# Altium integrated library Atmel Communication ICs.IntLib: 82 symbols (part 2 of 3)
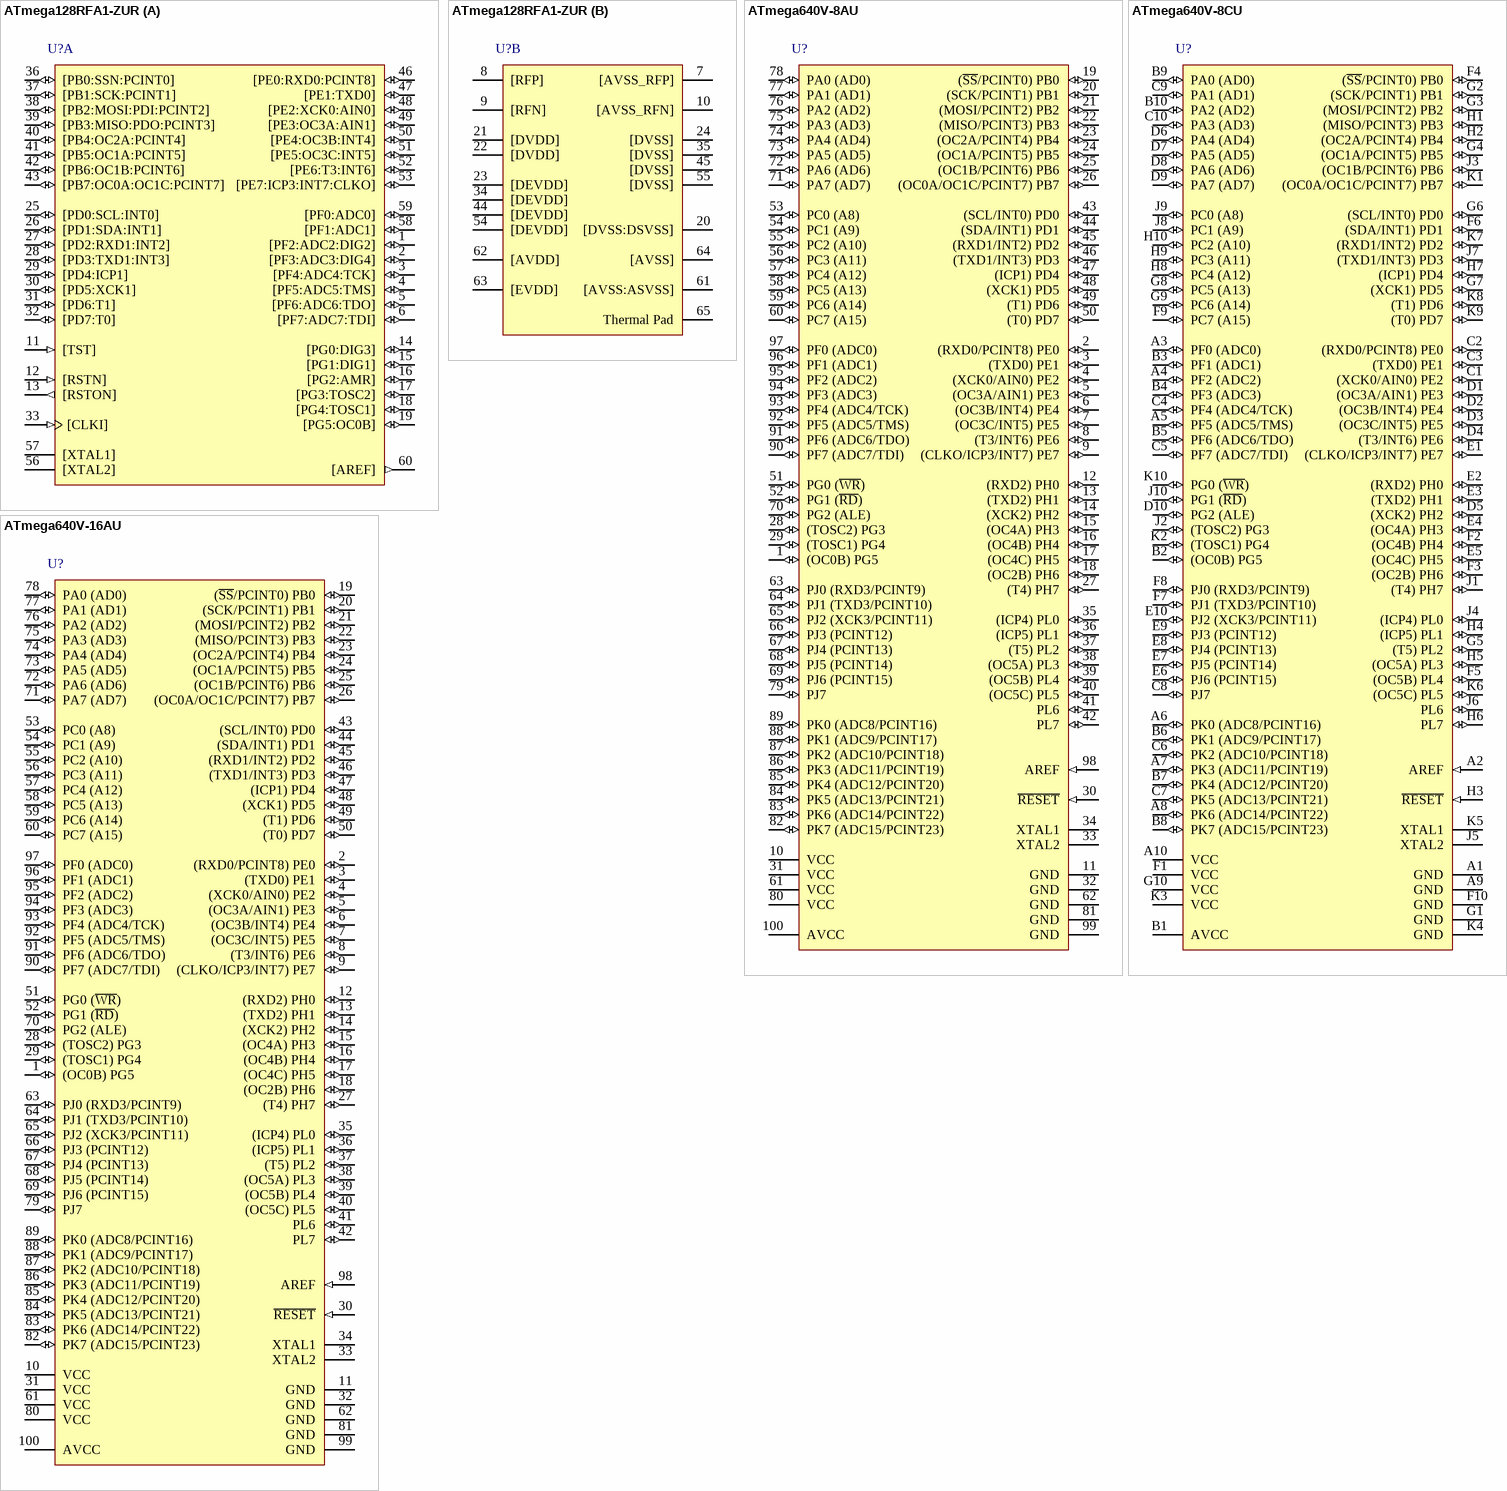
[diagram p9: symbols ATmega128RFA1-ZUR to ATmega640V-16AU]

## ATmega640V-16AU
designator U?
16 MHz 8-bit AVR Microcontroller with 64KB Flash, 100-Pin TQFP Pkg, 86 I/Os, 12 PWMs, 4 USARTs, 16 ADC Channels, Industrial Temp; Published: 20-Sep-2010; DatasheetVersion: revL, Aug-2007; PackageVersion: revC, Oct-2001; PackageReference: 100A; Publisher: Altium Limited; PackageDescription: 100-Pin Thin Profile Plastic Quad Flat Pack (TQFP), 14 x 14 x 1.0 mm Body, 0.5 mm Pitch; Code_JEDEC: MS-026-AED; ComponentLink1Description: ATmega640V Datasheet; ComponentLink1URL: http://www.atmel.com/dyn/resources/prod_documents/doc2549.pdf; ComponentLink2Description: Atmel.com Home; ComponentLink2URL: http://www.atmel.com
footprint 100A_N (Thin QFP, 100-Leads, Body 14x14mm, Pitch 0.5mm, IPC Medium Density)
footprint 100A_L (Thin QFP, 100-Leads, Body 14x14mm, Pitch 0.5mm, IPC High Density)
footprint 100A_M (Thin QFP, 100-Leads, Body 14x14mm, Pitch 0.5mm, IPC Low Density)
pins: 1 (OC0B) PG5 (io), 2 (RXD0/PCINT8) PE0 (io), 3 (TXD0) PE1 (io), 4 (XCK0/AIN0) PE2 (io), 5 (OC3A/AIN1) PE3 (io), 6 (OC3B/INT4) PE4 (io), 7 (OC3C/INT5) PE5 (io), 8 (T3/INT6) PE6 (io), 9 (CLKO/ICP3/INT7) PE7 (io), 10 VCC (power), 11 GND (power), 12 (RXD2) PH0 (io), 13 (TXD2) PH1 (io), 14 (XCK2) PH2 (io), 15 (OC4A) PH3 (io), 16 (OC4B) PH4 (io), 17 (OC4C) PH5 (io), 18 (OC2B) PH6 (io), 19 (~{SS}/PCINT0) PB0 (io), 20 (SCK/PCINT1) PB1 (io), 21 (MOSI/PCINT2) PB2 (io), 22 (MISO/PCINT3) PB3 (io), 23 (OC2A/PCINT4) PB4 (io), 24 (OC1A/PCINT5) PB5 (io), 25 (OC1B/PCINT6) PB6 (io), 26 (OC0A/OC1C/PCINT7) PB7 (io), 27 (T4) PH7 (io), 28 (TOSC2) PG3 (io), 29 (TOSC1) PG4 (io), 30 ~{RESET} (in), 31 VCC (power), 32 GND (power), 33 XTAL2, 34 XTAL1, 35 (ICP4) PL0 (io), 36 (ICP5) PL1 (io), 37 (T5) PL2 (io), 38 (OC5A) PL3 (io), 39 (OC5B) PL4 (io), 40 (OC5C) PL5 (io), 41 PL6 (io), 42 PL7 (io), 43 (SCL/INT0) PD0 (io), 44 (SDA/INT1) PD1 (io), 45 (RXD1/INT2) PD2 (io), 46 (TXD1/INT3) PD3 (io), 47 (ICP1) PD4 (io), 48 (XCK1) PD5 (io), 49 (T1) PD6 (io), 50 (T0) PD7 (io), 51 PG0 (~{WR})  (io), 52 PG1 (~{RD})  (io), 53 PC0 (A8)  (io), 54 PC1 (A9)  (io), 55 PC2 (A10)  (io), 56 PC3 (A11)  (io), 57 PC4 (A12)  (io), 58 PC5 (A13)  (io), 59 PC6 (A14)  (io), 60 PC7 (A15)  (io), 61 VCC (power), 62 GND (power), 63 PJ0 (RXD3/PCINT9)  (io), 64 PJ1 (TXD3/PCINT10)  (io), 65 PJ2 (XCK3/PCINT11)  (io), 66 PJ3 (PCINT12)  (io), 67 PJ4 (PCINT13)  (io), 68 PJ5 (PCINT14)  (io), 69 PJ6 (PCINT15)  (io), 70 PG2 (ALE)  (io), 71 PA7 (AD7)  (io), 72 PA6 (AD6)  (io), 73 PA5 (AD5)  (io), 74 PA4 (AD4)  (io), 75 PA3 (AD3)  (io), 76 PA2 (AD2) (io), 77 PA1 (AD1) (io), 78 PA0 (AD0) (io), 79 PJ7 (io), 80 VCC (power), 81 GND (power), 82 PK7 (ADC15/PCINT23) (io), 83 PK6 (ADC14/PCINT22) (io), 84 PK5 (ADC13/PCINT21) (io), 85 PK4 (ADC12/PCINT20) (io), 86 PK3 (ADC11/PCINT19) (io), 87 PK2 (ADC10/PCINT18) (io), 88 PK1 (ADC9/PCINT17) (io), 89 PK0 (ADC8/PCINT16) (io), 90 PF7 (ADC7/TDI) (io), 91 PF6 (ADC6/TDO) (io), 92 PF5 (ADC5/TMS) (io), 93 PF4 (ADC4/TCK) (io), 94 PF3 (ADC3) (io), 95 PF2 (ADC2) (io), 96 PF1 (ADC1) (io), 97 PF0 (ADC0) (io), 98 AREF (in), 99 GND (power), 100 AVCC (power)

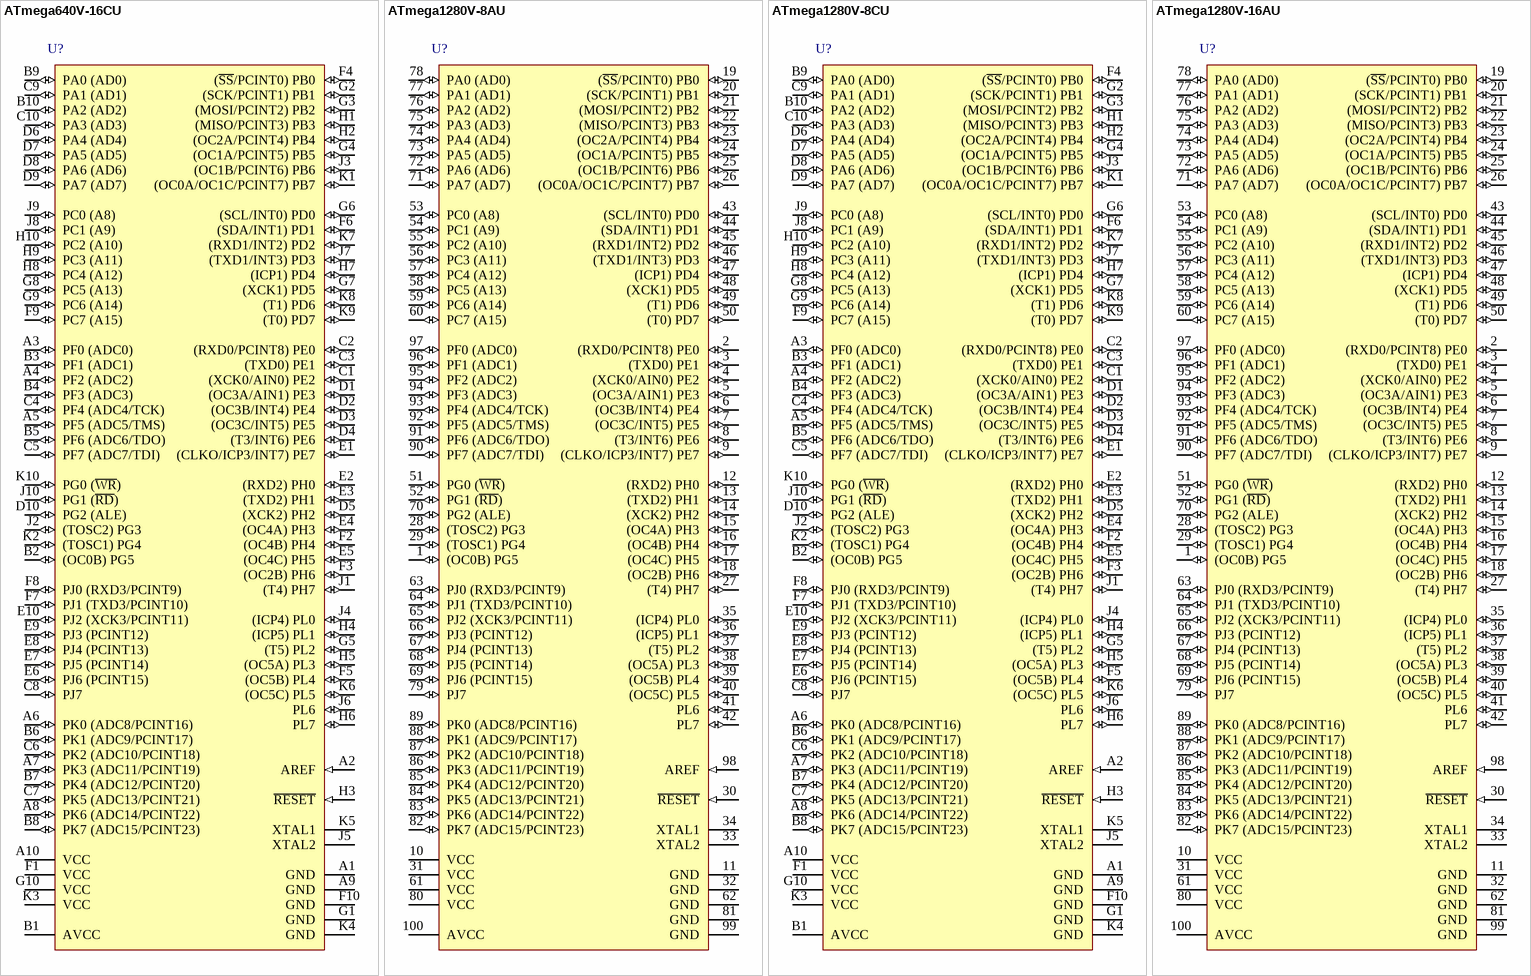
[diagram p3: symbols ATmega640V-16CU to ATmega1280V-16AU]

## ATmega640V-16CU
designator U?
16 MHz 8-bit AVR Microcontroller with 64KB Flash, 100-Ball CBGA Pkg, 86 I/Os, 12 PWMs, 4 USARTs, 16 ADC Channels, Industrial Temp; Published: 20-Sep-2010; DatasheetVersion: revL, Aug-2007; PackageVersion: revA, May-2006; PackageReference: 100C1; Publisher: Altium Limited; PackageDescription: 100-Ball Chip Array BGA Package (CBGA), 9 x 9 x1.2 mm Body, 0.80 mm Pitch; ComponentLink1Description: ATmega640V Datasheet; ComponentLink1URL: http://www.atmel.com/dyn/resources/prod_documents/doc2549.pdf; ComponentLink2Description: Atmel.com Home; ComponentLink2URL: http://www.atmel.com
footprint 100C1 (BGA, 100-Leads, Body 9x9mm, Pitch 0.8mm)
pins: A1 GND (power), A2 AREF (in), A3 PF0 (ADC0) (io), A4 PF2 (ADC2) (io), A5 PF5 (ADC5/TMS) (io), A6 PK0 (ADC8/PCINT16) (io), A7 PK3 (ADC11/PCINT19) (io), A8 PK6 (ADC14/PCINT22) (io), A9 GND (power), A10 VCC (power), B1 AVCC (power), B2 (OC0B) PG5 (io), B3 PF1 (ADC1) (io), B4 PF3 (ADC3) (io), B5 PF6 (ADC6/TDO) (io), B6 PK1 (ADC9/PCINT17) (io), B7 PK4 (ADC12/PCINT20) (io), B8 PK7 (ADC15/PCINT23) (io), B9 PA0 (AD0) (io), B10 PA2 (AD2) (io), C1 (XCK0/AIN0) PE2 (io), C2 (RXD0/PCINT8) PE0 (io), C3 (TXD0) PE1 (io), C4 PF4 (ADC4/TCK) (io), C5 PF7 (ADC7/TDI) (io), C6 PK2 (ADC10/PCINT18) (io), C7 PK5 (ADC13/PCINT21) (io), C8 PJ7 (io), C9 PA1 (AD1) (io), C10 PA3 (AD3)  (io), D1 (OC3A/AIN1) PE3 (io), D2 (OC3B/INT4) PE4 (io), D3 (OC3C/INT5) PE5 (io), D4 (T3/INT6) PE6 (io), D5 (XCK2) PH2 (io), D6 PA4 (AD4)  (io), D7 PA5 (AD5)  (io), D8 PA6 (AD6)  (io), D9 PA7 (AD7)  (io), D10 PG2 (ALE)  (io), E1 (CLKO/ICP3/INT7) PE7 (io), E2 (RXD2) PH0 (io), E3 (TXD2) PH1 (io), E4 (OC4A) PH3 (io), E5 (OC4C) PH5 (io), E6 PJ6 (PCINT15)  (io), E7 PJ5 (PCINT14)  (io), E8 PJ4 (PCINT13)  (io), E9 PJ3 (PCINT12)  (io), E10 PJ2 (XCK3/PCINT11)  (io), F1 VCC (power), F2 (OC4B) PH4 (io), F3 (OC2B) PH6 (io), F4 (~{SS}/PCINT0) PB0 (io), F5 (OC5B) PL4 (io), F6 (SDA/INT1) PD1 (io), F7 PJ1 (TXD3/PCINT10)  (io), F8 PJ0 (RXD3/PCINT9)  (io), F9 PC7 (A15)  (io), F10 GND (power), G1 GND (power), G2 (SCK/PCINT1) PB1 (io), G3 (MOSI/PCINT2) PB2 (io), G4 (OC1A/PCINT5) PB5 (io), G5 (T5) PL2 (io), G6 (SCL/INT0) PD0 (io), G7 (XCK1) PD5 (io), G8 PC5 (A13)  (io), G9 PC6 (A14)  (io), G10 VCC (power), H1 (MISO/PCINT3) PB3 (io), H2 (OC2A/PCINT4) PB4 (io), H3 ~{RESET} (in), H4 (ICP5) PL1 (io), H5 (OC5A) PL3 (io), H6 PL7 (io), H7 (ICP1) PD4 (io), H8 PC4 (A12)  (io), H9 PC3 (A11)  (io), H10 PC2 (A10)  (io), J1 (T4) PH7 (io), J2 (TOSC2) PG3 (io), J3 (OC1B/PCINT6) PB6 (io), J4 (ICP4) PL0 (io), J5 XTAL2, J6 PL6 (io), J7 (TXD1/INT3) PD3 (io), J8 PC1 (A9)  (io), J9 PC0 (A8)  (io), J10 PG1 (~{RD})  (io), K1 (OC0A/OC1C/PCINT7) PB7 (io), K2 (TOSC1) PG4 (io), K3 VCC (power), K4 GND (power), K5 XTAL1, K6 (OC5C) PL5 (io), K7 (RXD1/INT2) PD2 (io), K8 (T1) PD6 (io), K9 (T0) PD7 (io), K10 PG0 (~{WR})  (io)

## ATmega1280V-8AU
designator U?
8 MHz 8-bit AVR Microcontroller with 128KB Flash, 100-Pin TQFP Pkg, 86 I/Os, 12 PWMs, 4 USARTs, 16 ADC Channels, Industrial Temp; Published: 20-Sep-2010; DatasheetVersion: revL, Aug-2007; PackageVersion: revC, Oct-2001; PackageReference: 100A; Publisher: Altium Limited; PackageDescription: 100-Pin Thin Profile Plastic Quad Flat Pack (TQFP), 14 x 14 x 1.0 mm Body, 0.5 mm Pitch; Supplier 1: Digi-Key; Supplier Part Number 1: ATMEGA1280V-8AU-ND; Supplier 2: Farnell; Supplier Part Number 2: 1455091; Supplier 3: Mouser; Supplier Part Number 3: 556-ATMEGA1280V8AU; Code_JEDEC: MS-026-AED; ComponentLink1Description: ATmega1280V Datasheet; ComponentLink1URL: http://www.atmel.com/dyn/resources/prod_documents/doc2549.pdf; ComponentLink2Description: Atmel.com Home; ComponentLink2URL: http://www.atmel.com
footprint 100A_N (Thin QFP, 100-Leads, Body 14x14mm, Pitch 0.5mm, IPC Medium Density)
footprint 100A_L (Thin QFP, 100-Leads, Body 14x14mm, Pitch 0.5mm, IPC High Density)
footprint 100A_M (Thin QFP, 100-Leads, Body 14x14mm, Pitch 0.5mm, IPC Low Density)
pins: 1 (OC0B) PG5 (io), 2 (RXD0/PCINT8) PE0 (io), 3 (TXD0) PE1 (io), 4 (XCK0/AIN0) PE2 (io), 5 (OC3A/AIN1) PE3 (io), 6 (OC3B/INT4) PE4 (io), 7 (OC3C/INT5) PE5 (io), 8 (T3/INT6) PE6 (io), 9 (CLKO/ICP3/INT7) PE7 (io), 10 VCC (power), 11 GND (power), 12 (RXD2) PH0 (io), 13 (TXD2) PH1 (io), 14 (XCK2) PH2 (io), 15 (OC4A) PH3 (io), 16 (OC4B) PH4 (io), 17 (OC4C) PH5 (io), 18 (OC2B) PH6 (io), 19 (~{SS}/PCINT0) PB0 (io), 20 (SCK/PCINT1) PB1 (io), 21 (MOSI/PCINT2) PB2 (io), 22 (MISO/PCINT3) PB3 (io), 23 (OC2A/PCINT4) PB4 (io), 24 (OC1A/PCINT5) PB5 (io), 25 (OC1B/PCINT6) PB6 (io), 26 (OC0A/OC1C/PCINT7) PB7 (io), 27 (T4) PH7 (io), 28 (TOSC2) PG3 (io), 29 (TOSC1) PG4 (io), 30 ~{RESET} (in), 31 VCC (power), 32 GND (power), 33 XTAL2, 34 XTAL1, 35 (ICP4) PL0 (io), 36 (ICP5) PL1 (io), 37 (T5) PL2 (io), 38 (OC5A) PL3 (io), 39 (OC5B) PL4 (io), 40 (OC5C) PL5 (io), 41 PL6 (io), 42 PL7 (io), 43 (SCL/INT0) PD0 (io), 44 (SDA/INT1) PD1 (io), 45 (RXD1/INT2) PD2 (io), 46 (TXD1/INT3) PD3 (io), 47 (ICP1) PD4 (io), 48 (XCK1) PD5 (io), 49 (T1) PD6 (io), 50 (T0) PD7 (io), 51 PG0 (~{WR})  (io), 52 PG1 (~{RD})  (io), 53 PC0 (A8)  (io), 54 PC1 (A9)  (io), 55 PC2 (A10)  (io), 56 PC3 (A11)  (io), 57 PC4 (A12)  (io), 58 PC5 (A13)  (io), 59 PC6 (A14)  (io), 60 PC7 (A15)  (io), 61 VCC (power), 62 GND (power), 63 PJ0 (RXD3/PCINT9)  (io), 64 PJ1 (TXD3/PCINT10)  (io), 65 PJ2 (XCK3/PCINT11)  (io), 66 PJ3 (PCINT12)  (io), 67 PJ4 (PCINT13)  (io), 68 PJ5 (PCINT14)  (io), 69 PJ6 (PCINT15)  (io), 70 PG2 (ALE)  (io), 71 PA7 (AD7)  (io), 72 PA6 (AD6)  (io), 73 PA5 (AD5)  (io), 74 PA4 (AD4)  (io), 75 PA3 (AD3)  (io), 76 PA2 (AD2) (io), 77 PA1 (AD1) (io), 78 PA0 (AD0) (io), 79 PJ7 (io), 80 VCC (power), 81 GND (power), 82 PK7 (ADC15/PCINT23) (io), 83 PK6 (ADC14/PCINT22) (io), 84 PK5 (ADC13/PCINT21) (io), 85 PK4 (ADC12/PCINT20) (io), 86 PK3 (ADC11/PCINT19) (io), 87 PK2 (ADC10/PCINT18) (io), 88 PK1 (ADC9/PCINT17) (io), 89 PK0 (ADC8/PCINT16) (io), 90 PF7 (ADC7/TDI) (io), 91 PF6 (ADC6/TDO) (io), 92 PF5 (ADC5/TMS) (io), 93 PF4 (ADC4/TCK) (io), 94 PF3 (ADC3) (io), 95 PF2 (ADC2) (io), 96 PF1 (ADC1) (io), 97 PF0 (ADC0) (io), 98 AREF (in), 99 GND (power), 100 AVCC (power)

## ATmega1280V-8CU
designator U?
8 MHz 8-bit AVR Microcontroller with 128KB Flash, 100-Ball CBGA Pkg, 86 I/Os, 12 PWMs, 4 USARTs, 16 ADC Channels, Industrial Temp; Published: 20-Sep-2010; DatasheetVersion: revL, Aug-2007; PackageVersion: revA, May-2006; PackageReference: 100C1; Publisher: Altium Limited; PackageDescription: 100-Ball Chip Array BGA Package (CBGA), 9 x 9 x1.2 mm Body, 0.80 mm Pitch; Supplier 1: Digi-Key; Supplier Part Number 1: ATMEGA1280V-8CU-ND; Supplier 2: Mouser; Supplier Part Number 2: 556-ATMEGA1280V8CU; ComponentLink1Description: ATmega1280V Datasheet; ComponentLink1URL: http://www.atmel.com/dyn/resources/prod_documents/doc2549.pdf; ComponentLink2Description: Atmel.com Home; ComponentLink2URL: http://www.atmel.com
footprint 100C1 (BGA, 100-Leads, Body 9x9mm, Pitch 0.8mm)
pins: A1 GND (power), A2 AREF (in), A3 PF0 (ADC0) (io), A4 PF2 (ADC2) (io), A5 PF5 (ADC5/TMS) (io), A6 PK0 (ADC8/PCINT16) (io), A7 PK3 (ADC11/PCINT19) (io), A8 PK6 (ADC14/PCINT22) (io), A9 GND (power), A10 VCC (power), B1 AVCC (power), B2 (OC0B) PG5 (io), B3 PF1 (ADC1) (io), B4 PF3 (ADC3) (io), B5 PF6 (ADC6/TDO) (io), B6 PK1 (ADC9/PCINT17) (io), B7 PK4 (ADC12/PCINT20) (io), B8 PK7 (ADC15/PCINT23) (io), B9 PA0 (AD0) (io), B10 PA2 (AD2) (io), C1 (XCK0/AIN0) PE2 (io), C2 (RXD0/PCINT8) PE0 (io), C3 (TXD0) PE1 (io), C4 PF4 (ADC4/TCK) (io), C5 PF7 (ADC7/TDI) (io), C6 PK2 (ADC10/PCINT18) (io), C7 PK5 (ADC13/PCINT21) (io), C8 PJ7 (io), C9 PA1 (AD1) (io), C10 PA3 (AD3)  (io), D1 (OC3A/AIN1) PE3 (io), D2 (OC3B/INT4) PE4 (io), D3 (OC3C/INT5) PE5 (io), D4 (T3/INT6) PE6 (io), D5 (XCK2) PH2 (io), D6 PA4 (AD4)  (io), D7 PA5 (AD5)  (io), D8 PA6 (AD6)  (io), D9 PA7 (AD7)  (io), D10 PG2 (ALE)  (io), E1 (CLKO/ICP3/INT7) PE7 (io), E2 (RXD2) PH0 (io), E3 (TXD2) PH1 (io), E4 (OC4A) PH3 (io), E5 (OC4C) PH5 (io), E6 PJ6 (PCINT15)  (io), E7 PJ5 (PCINT14)  (io), E8 PJ4 (PCINT13)  (io), E9 PJ3 (PCINT12)  (io), E10 PJ2 (XCK3/PCINT11)  (io), F1 VCC (power), F2 (OC4B) PH4 (io), F3 (OC2B) PH6 (io), F4 (~{SS}/PCINT0) PB0 (io), F5 (OC5B) PL4 (io), F6 (SDA/INT1) PD1 (io), F7 PJ1 (TXD3/PCINT10)  (io), F8 PJ0 (RXD3/PCINT9)  (io), F9 PC7 (A15)  (io), F10 GND (power), G1 GND (power), G2 (SCK/PCINT1) PB1 (io), G3 (MOSI/PCINT2) PB2 (io), G4 (OC1A/PCINT5) PB5 (io), G5 (T5) PL2 (io), G6 (SCL/INT0) PD0 (io), G7 (XCK1) PD5 (io), G8 PC5 (A13)  (io), G9 PC6 (A14)  (io), G10 VCC (power), H1 (MISO/PCINT3) PB3 (io), H2 (OC2A/PCINT4) PB4 (io), H3 ~{RESET} (in), H4 (ICP5) PL1 (io), H5 (OC5A) PL3 (io), H6 PL7 (io), H7 (ICP1) PD4 (io), H8 PC4 (A12)  (io), H9 PC3 (A11)  (io), H10 PC2 (A10)  (io), J1 (T4) PH7 (io), J2 (TOSC2) PG3 (io), J3 (OC1B/PCINT6) PB6 (io), J4 (ICP4) PL0 (io), J5 XTAL2, J6 PL6 (io), J7 (TXD1/INT3) PD3 (io), J8 PC1 (A9)  (io), J9 PC0 (A8)  (io), J10 PG1 (~{RD})  (io), K1 (OC0A/OC1C/PCINT7) PB7 (io), K2 (TOSC1) PG4 (io), K3 VCC (power), K4 GND (power), K5 XTAL1, K6 (OC5C) PL5 (io), K7 (RXD1/INT2) PD2 (io), K8 (T1) PD6 (io), K9 (T0) PD7 (io), K10 PG0 (~{WR})  (io)

## ATmega1280V-16AU
designator U?
16 MHz 8-bit AVR Microcontroller with 128KB Flash, 100-Pin TQFP Pkg, 86 I/Os, 12 PWMs, 4 USARTs, 16 ADC Channels, Industrial Temp; Published: 20-Sep-2010; DatasheetVersion: revL, Aug-2007; PackageVersion: revC, Oct-2001; PackageReference: 100A; Publisher: Altium Limited; PackageDescription: 100-Pin Thin Profile Plastic Quad Flat Pack (TQFP), 14 x 14 x 1.0 mm Body, 0.5 mm Pitch; Code_JEDEC: MS-026-AED; ComponentLink1Description: ATmega1280V Datasheet; ComponentLink1URL: http://www.atmel.com/dyn/resources/prod_documents/doc2549.pdf; ComponentLink2Description: Atmel.com Home; ComponentLink2URL: http://www.atmel.com
footprint 100A_N (Thin QFP, 100-Leads, Body 14x14mm, Pitch 0.5mm, IPC Medium Density)
footprint 100A_L (Thin QFP, 100-Leads, Body 14x14mm, Pitch 0.5mm, IPC High Density)
footprint 100A_M (Thin QFP, 100-Leads, Body 14x14mm, Pitch 0.5mm, IPC Low Density)
pins: 1 (OC0B) PG5 (io), 2 (RXD0/PCINT8) PE0 (io), 3 (TXD0) PE1 (io), 4 (XCK0/AIN0) PE2 (io), 5 (OC3A/AIN1) PE3 (io), 6 (OC3B/INT4) PE4 (io), 7 (OC3C/INT5) PE5 (io), 8 (T3/INT6) PE6 (io), 9 (CLKO/ICP3/INT7) PE7 (io), 10 VCC (power), 11 GND (power), 12 (RXD2) PH0 (io), 13 (TXD2) PH1 (io), 14 (XCK2) PH2 (io), 15 (OC4A) PH3 (io), 16 (OC4B) PH4 (io), 17 (OC4C) PH5 (io), 18 (OC2B) PH6 (io), 19 (~{SS}/PCINT0) PB0 (io), 20 (SCK/PCINT1) PB1 (io), 21 (MOSI/PCINT2) PB2 (io), 22 (MISO/PCINT3) PB3 (io), 23 (OC2A/PCINT4) PB4 (io), 24 (OC1A/PCINT5) PB5 (io), 25 (OC1B/PCINT6) PB6 (io), 26 (OC0A/OC1C/PCINT7) PB7 (io), 27 (T4) PH7 (io), 28 (TOSC2) PG3 (io), 29 (TOSC1) PG4 (io), 30 ~{RESET} (in), 31 VCC (power), 32 GND (power), 33 XTAL2, 34 XTAL1, 35 (ICP4) PL0 (io), 36 (ICP5) PL1 (io), 37 (T5) PL2 (io), 38 (OC5A) PL3 (io), 39 (OC5B) PL4 (io), 40 (OC5C) PL5 (io), 41 PL6 (io), 42 PL7 (io), 43 (SCL/INT0) PD0 (io), 44 (SDA/INT1) PD1 (io), 45 (RXD1/INT2) PD2 (io), 46 (TXD1/INT3) PD3 (io), 47 (ICP1) PD4 (io), 48 (XCK1) PD5 (io), 49 (T1) PD6 (io), 50 (T0) PD7 (io), 51 PG0 (~{WR})  (io), 52 PG1 (~{RD})  (io), 53 PC0 (A8)  (io), 54 PC1 (A9)  (io), 55 PC2 (A10)  (io), 56 PC3 (A11)  (io), 57 PC4 (A12)  (io), 58 PC5 (A13)  (io), 59 PC6 (A14)  (io), 60 PC7 (A15)  (io), 61 VCC (power), 62 GND (power), 63 PJ0 (RXD3/PCINT9)  (io), 64 PJ1 (TXD3/PCINT10)  (io), 65 PJ2 (XCK3/PCINT11)  (io), 66 PJ3 (PCINT12)  (io), 67 PJ4 (PCINT13)  (io), 68 PJ5 (PCINT14)  (io), 69 PJ6 (PCINT15)  (io), 70 PG2 (ALE)  (io), 71 PA7 (AD7)  (io), 72 PA6 (AD6)  (io), 73 PA5 (AD5)  (io), 74 PA4 (AD4)  (io), 75 PA3 (AD3)  (io), 76 PA2 (AD2) (io), 77 PA1 (AD1) (io), 78 PA0 (AD0) (io), 79 PJ7 (io), 80 VCC (power), 81 GND (power), 82 PK7 (ADC15/PCINT23) (io), 83 PK6 (ADC14/PCINT22) (io), 84 PK5 (ADC13/PCINT21) (io), 85 PK4 (ADC12/PCINT20) (io), 86 PK3 (ADC11/PCINT19) (io), 87 PK2 (ADC10/PCINT18) (io), 88 PK1 (ADC9/PCINT17) (io), 89 PK0 (ADC8/PCINT16) (io), 90 PF7 (ADC7/TDI) (io), 91 PF6 (ADC6/TDO) (io), 92 PF5 (ADC5/TMS) (io), 93 PF4 (ADC4/TCK) (io), 94 PF3 (ADC3) (io), 95 PF2 (ADC2) (io), 96 PF1 (ADC1) (io), 97 PF0 (ADC0) (io), 98 AREF (in), 99 GND (power), 100 AVCC (power)

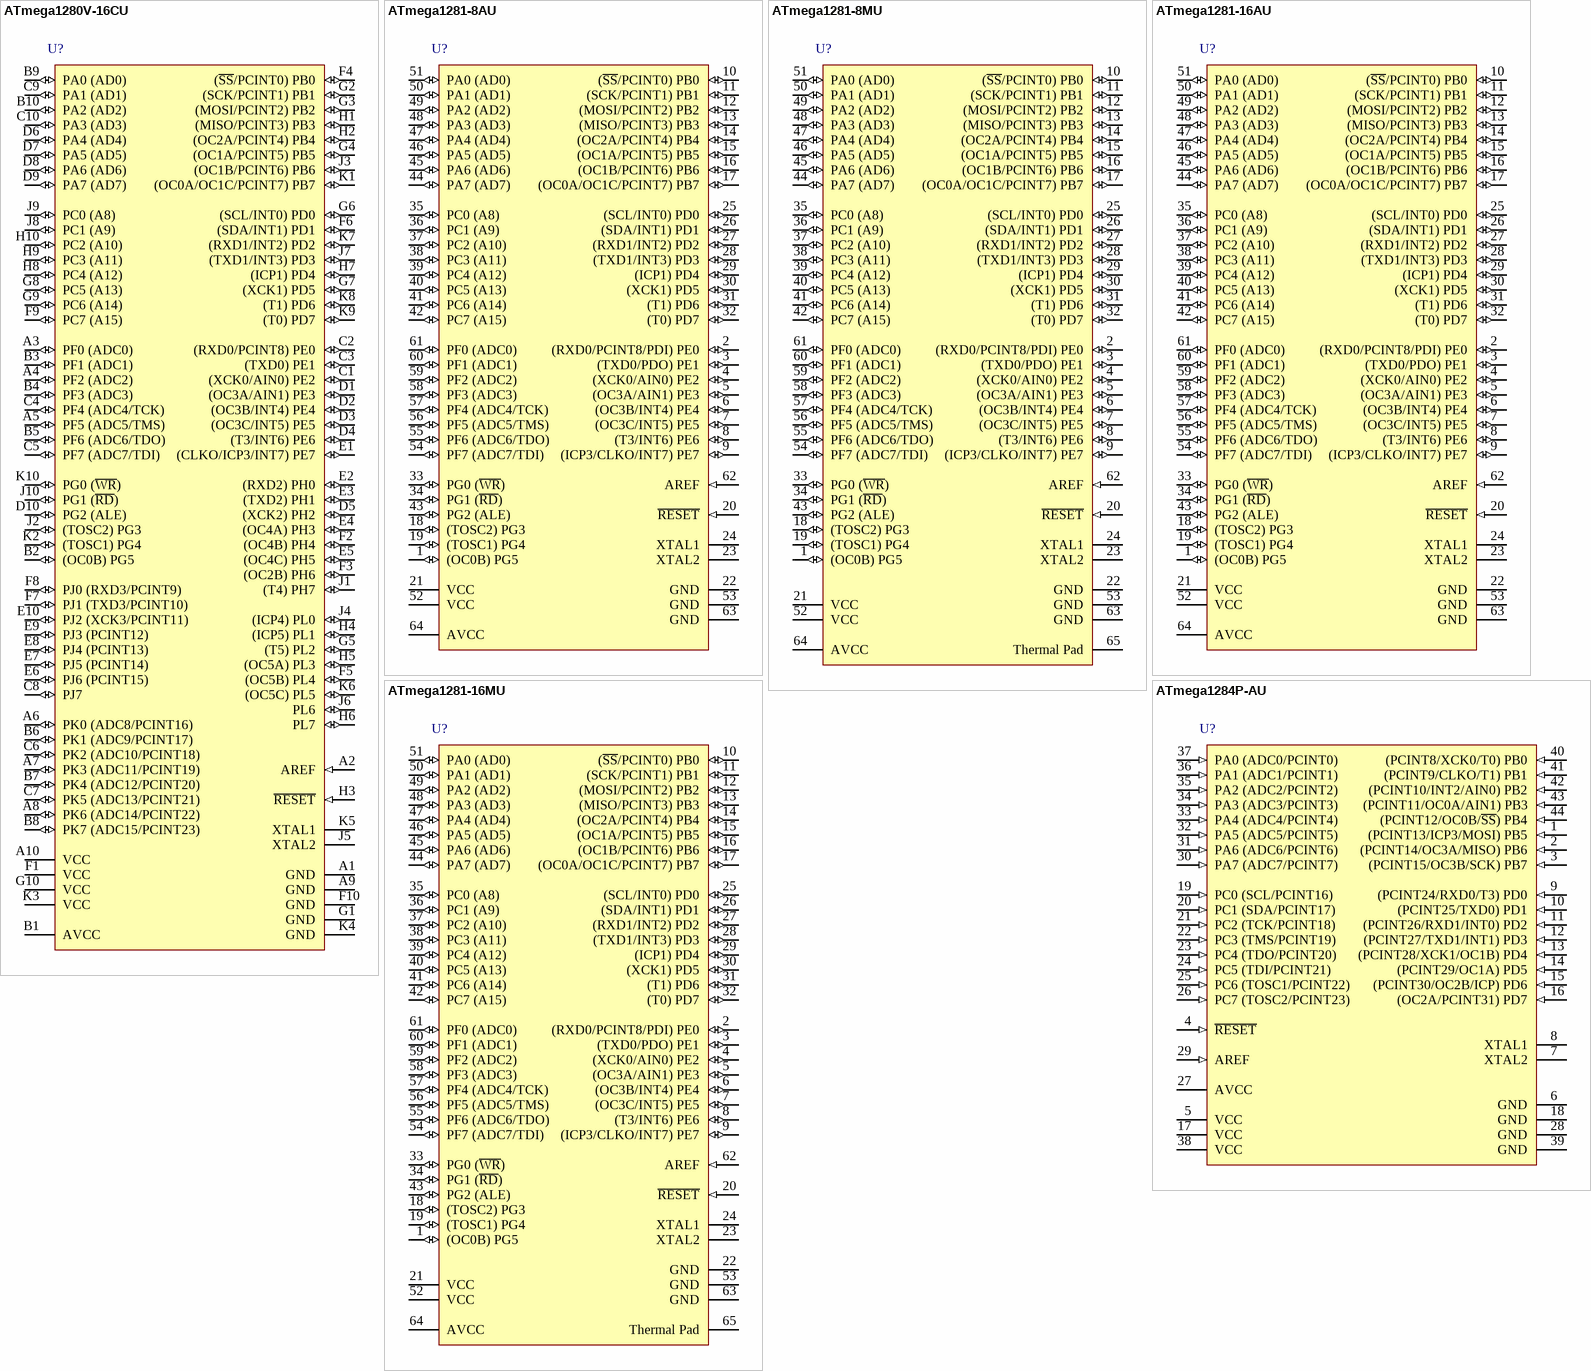
[diagram p4: symbols ATmega1280V-16CU to ATmega1284P-AU]

## ATmega1280V-16CU
designator U?
16 MHz 8-bit AVR Microcontroller with 128KB Flash, 100-Ball CBGA Pkg, 86 I/Os, 12 PWMs, 4 USARTs, 16 ADC Channels, Industrial Temp; Published: 20-Sep-2010; DatasheetVersion: revL, Aug-2007; PackageVersion: revA, May-2006; PackageReference: 100C1; Publisher: Altium Limited; PackageDescription: 100-Ball Chip Array BGA Package (CBGA), 9 x 9 x1.2 mm Body, 0.80 mm Pitch; ComponentLink1Description: ATmega1280V Datasheet; ComponentLink1URL: http://www.atmel.com/dyn/resources/prod_documents/doc2549.pdf; ComponentLink2Description: Atmel.com Home; ComponentLink2URL: http://www.atmel.com
footprint 100C1 (BGA, 100-Leads, Body 9x9mm, Pitch 0.8mm)
pins: A1 GND (power), A2 AREF (in), A3 PF0 (ADC0) (io), A4 PF2 (ADC2) (io), A5 PF5 (ADC5/TMS) (io), A6 PK0 (ADC8/PCINT16) (io), A7 PK3 (ADC11/PCINT19) (io), A8 PK6 (ADC14/PCINT22) (io), A9 GND (power), A10 VCC (power), B1 AVCC (power), B2 (OC0B) PG5 (io), B3 PF1 (ADC1) (io), B4 PF3 (ADC3) (io), B5 PF6 (ADC6/TDO) (io), B6 PK1 (ADC9/PCINT17) (io), B7 PK4 (ADC12/PCINT20) (io), B8 PK7 (ADC15/PCINT23) (io), B9 PA0 (AD0) (io), B10 PA2 (AD2) (io), C1 (XCK0/AIN0) PE2 (io), C2 (RXD0/PCINT8) PE0 (io), C3 (TXD0) PE1 (io), C4 PF4 (ADC4/TCK) (io), C5 PF7 (ADC7/TDI) (io), C6 PK2 (ADC10/PCINT18) (io), C7 PK5 (ADC13/PCINT21) (io), C8 PJ7 (io), C9 PA1 (AD1) (io), C10 PA3 (AD3)  (io), D1 (OC3A/AIN1) PE3 (io), D2 (OC3B/INT4) PE4 (io), D3 (OC3C/INT5) PE5 (io), D4 (T3/INT6) PE6 (io), D5 (XCK2) PH2 (io), D6 PA4 (AD4)  (io), D7 PA5 (AD5)  (io), D8 PA6 (AD6)  (io), D9 PA7 (AD7)  (io), D10 PG2 (ALE)  (io), E1 (CLKO/ICP3/INT7) PE7 (io), E2 (RXD2) PH0 (io), E3 (TXD2) PH1 (io), E4 (OC4A) PH3 (io), E5 (OC4C) PH5 (io), E6 PJ6 (PCINT15)  (io), E7 PJ5 (PCINT14)  (io), E8 PJ4 (PCINT13)  (io), E9 PJ3 (PCINT12)  (io), E10 PJ2 (XCK3/PCINT11)  (io), F1 VCC (power), F2 (OC4B) PH4 (io), F3 (OC2B) PH6 (io), F4 (~{SS}/PCINT0) PB0 (io), F5 (OC5B) PL4 (io), F6 (SDA/INT1) PD1 (io), F7 PJ1 (TXD3/PCINT10)  (io), F8 PJ0 (RXD3/PCINT9)  (io), F9 PC7 (A15)  (io), F10 GND (power), G1 GND (power), G2 (SCK/PCINT1) PB1 (io), G3 (MOSI/PCINT2) PB2 (io), G4 (OC1A/PCINT5) PB5 (io), G5 (T5) PL2 (io), G6 (SCL/INT0) PD0 (io), G7 (XCK1) PD5 (io), G8 PC5 (A13)  (io), G9 PC6 (A14)  (io), G10 VCC (power), H1 (MISO/PCINT3) PB3 (io), H2 (OC2A/PCINT4) PB4 (io), H3 ~{RESET} (in), H4 (ICP5) PL1 (io), H5 (OC5A) PL3 (io), H6 PL7 (io), H7 (ICP1) PD4 (io), H8 PC4 (A12)  (io), H9 PC3 (A11)  (io), H10 PC2 (A10)  (io), J1 (T4) PH7 (io), J2 (TOSC2) PG3 (io), J3 (OC1B/PCINT6) PB6 (io), J4 (ICP4) PL0 (io), J5 XTAL2, J6 PL6 (io), J7 (TXD1/INT3) PD3 (io), J8 PC1 (A9)  (io), J9 PC0 (A8)  (io), J10 PG1 (~{RD})  (io), K1 (OC0A/OC1C/PCINT7) PB7 (io), K2 (TOSC1) PG4 (io), K3 VCC (power), K4 GND (power), K5 XTAL1, K6 (OC5C) PL5 (io), K7 (RXD1/INT2) PD2 (io), K8 (T1) PD6 (io), K9 (T0) PD7 (io), K10 PG0 (~{WR})  (io)

## ATmega1281-8AU
designator U?
8 MHz 8-bit AVR Microcontroller with 128KB Flash, 64-Pin TQFP Pkg, 54 I/Os, 6 PWMs, 2 USARTs, 8 ADC Channels, Industrial Temp; Published: 20-Sep-2010; DatasheetVersion: revL, Aug-2007; PackageVersion: revB, Oct-2001; PackageReference: 64A; Publisher: Altium Limited; PackageDescription: 64-Pin Plastic Thin Profile Quad Flat Pack, 14 x 14 x 1.0 mm Body, 0.8 mm Pitch (TQFP); Code_JEDEC: MS-026-AEB; ComponentLink1Description: ATmega1281 Datasheet; ComponentLink1URL: http://www.atmel.com/dyn/resources/prod_documents/doc2549.pdf; ComponentLink2Description: Atmel.com Home; ComponentLink2URL: http://www.atmel.com
footprint 64A_N (Thin QFP, 64-Leads, Body 14x14mm, Pitch 0.8mm, IPC Medium Density)
footprint 64A_L (Thin QFP, 64-Leads, Body 14x14mm, Pitch 0.8mm, IPC High Density)
footprint 64A_M (Thin QFP, 64-Leads, Body 14x14mm, Pitch 0.8mm, IPC Low Density)
pins: 1 (OC0B) PG5 (io), 2 (RXD0/PCINT8/PDI) PE0 (io), 3 (TXD0/PDO) PE1 (io), 4 (XCK0/AIN0) PE2 (io), 5 (OC3A/AIN1) PE3 (io), 6 (OC3B/INT4) PE4 (io), 7 (OC3C/INT5) PE5 (io), 8 (T3/INT6) PE6 (io), 9 (ICP3/CLKO/INT7) PE7 (io), 10 (~{SS}/PCINT0) PB0 (io), 11 (SCK/PCINT1) PB1 (io), 12 (MOSI/PCINT2) PB2 (io), 13 (MISO/PCINT3) PB3 (io), 14 (OC2A/PCINT4) PB4 (io), 15 (OC1A/PCINT5) PB5 (io), 16 (OC1B/PCINT6) PB6 (io), 17 (OC0A/OC1C/PCINT7) PB7 (io), 18 (TOSC2) PG3 (io), 19 (TOSC1) PG4 (io), 20 ~{RESET} (in), 21 VCC (power), 22 GND (power), 23 XTAL2, 24 XTAL1, 25 (SCL/INT0) PD0 (io), 26 (SDA/INT1) PD1 (io), 27 (RXD1/INT2) PD2 (io), 28 (TXD1/INT3) PD3 (io), 29 (ICP1) PD4 (io), 30 (XCK1) PD5 (io), 31 (T1) PD6 (io), 32 (T0) PD7 (io), 33 PG0 (~{WR})  (io), 34 PG1 (~{RD})  (io), 35 PC0 (A8)  (io), 36 PC1 (A9)  (io), 37 PC2 (A10)  (io), 38 PC3 (A11)  (io), 39 PC4 (A12)  (io), 40 PC5 (A13)  (io), 41 PC6 (A14)  (io), 42 PC7 (A15)  (io), 43 PG2 (ALE)  (io), 44 PA7 (AD7)  (io), 45 PA6 (AD6)  (io), 46 PA5 (AD5)  (io), 47 PA4 (AD4)  (io), 48 PA3 (AD3)  (io), 49 PA2 (AD2) (io), 50 PA1 (AD1) (io), 51 PA0 (AD0) (io), 52 VCC (power), 53 GND (power), 54 PF7 (ADC7/TDI) (io), 55 PF6 (ADC6/TDO) (io), 56 PF5 (ADC5/TMS) (io), 57 PF4 (ADC4/TCK) (io), 58 PF3 (ADC3) (io), 59 PF2 (ADC2) (io), 60 PF1 (ADC1) (io), 61 PF0 (ADC0) (io), 62 AREF (in), 63 GND (power), 64 AVCC (power)

## ATmega1281-8MU
designator U?
8 MHz 8-bit AVR Microcontroller with 128KB Flash, 64-Pin MLF Pkg, 54 I/Os, 6 PWMs, 2 USARTs, 8 ADC Channels, Industrial Temp; Published: 20-Sep-2010; DatasheetVersion: revL, Aug-2007; PackageVersion: revD, May-2006; PackageReference: 64M2; Publisher: Altium Limited; PackageDescription: 64-Pin Micro Lead Frame Package (MLF), 9 x 9 x 1.0 mm Body, 0.5 mm Pitch, 7.65 mm Exposed Pad; Code_JEDEC: MO-220VMMD; ComponentLink1Description: ATmega1281 Datasheet; ComponentLink1URL: http://www.atmel.com/dyn/resources/prod_documents/doc2549.pdf; ComponentLink2Description: Atmel.com Home; ComponentLink2URL: http://www.atmel.com
footprint 64M2_N (QFN, 64-Leads, Body 9x9mm, Pitch 0.5mm, IPC Medium Density)
footprint 64M2_L (QFN, 64-Leads, Body 9x9mm, Pitch 0.5mm, IPC High Density)
footprint 64M2_M (QFN, 64-Leads, Body 9x9mm, Pitch 0.5mm, IPC Low Density)
pins: 1 (OC0B) PG5 (io), 2 (RXD0/PCINT8/PDI) PE0 (io), 3 (TXD0/PDO) PE1 (io), 4 (XCK0/AIN0) PE2 (io), 5 (OC3A/AIN1) PE3 (io), 6 (OC3B/INT4) PE4 (io), 7 (OC3C/INT5) PE5 (io), 8 (T3/INT6) PE6 (io), 9 (ICP3/CLKO/INT7) PE7 (io), 10 (~{SS}/PCINT0) PB0 (io), 11 (SCK/PCINT1) PB1 (io), 12 (MOSI/PCINT2) PB2 (io), 13 (MISO/PCINT3) PB3 (io), 14 (OC2A/PCINT4) PB4 (io), 15 (OC1A/PCINT5) PB5 (io), 16 (OC1B/PCINT6) PB6 (io), 17 (OC0A/OC1C/PCINT7) PB7 (io), 18 (TOSC2) PG3 (io), 19 (TOSC1) PG4 (io), 20 ~{RESET} (in), 21 VCC (power), 22 GND (power), 23 XTAL2, 24 XTAL1, 25 (SCL/INT0) PD0 (io), 26 (SDA/INT1) PD1 (io), 27 (RXD1/INT2) PD2 (io), 28 (TXD1/INT3) PD3 (io), 29 (ICP1) PD4 (io), 30 (XCK1) PD5 (io), 31 (T1) PD6 (io), 32 (T0) PD7 (io), 33 PG0 (~{WR})  (io), 34 PG1 (~{RD})  (io), 35 PC0 (A8)  (io), 36 PC1 (A9)  (io), 37 PC2 (A10)  (io), 38 PC3 (A11)  (io), 39 PC4 (A12)  (io), 40 PC5 (A13)  (io), 41 PC6 (A14)  (io), 42 PC7 (A15)  (io), 43 PG2 (ALE)  (io), 44 PA7 (AD7)  (io), 45 PA6 (AD6)  (io), 46 PA5 (AD5)  (io), 47 PA4 (AD4)  (io), 48 PA3 (AD3)  (io), 49 PA2 (AD2) (io), 50 PA1 (AD1) (io), 51 PA0 (AD0) (io), 52 VCC (power), 53 GND (power), 54 PF7 (ADC7/TDI) (io), 55 PF6 (ADC6/TDO) (io), 56 PF5 (ADC5/TMS) (io), 57 PF4 (ADC4/TCK) (io), 58 PF3 (ADC3) (io), 59 PF2 (ADC2) (io), 60 PF1 (ADC1) (io), 61 PF0 (ADC0) (io), 62 AREF (in), 63 GND (power), 64 AVCC (power), 65 Thermal Pad (power)

## ATmega1281-16AU
designator U?
16 MHz 8-bit AVR Microcontroller with 128KB Flash, 64-Pin TQFP Pkg, 54 I/Os, 6 PWMs, 2 USARTs, 8 ADC Channels, Industrial Temp; Published: 20-Sep-2010; DatasheetVersion: revL, Aug-2007; PackageVersion: revB, Oct-2001; PackageReference: 64A; Publisher: Altium Limited; PackageDescription: 64-Pin Plastic Thin Profile Quad Flat Pack, 14 x 14 x 1.0 mm Body, 0.8 mm Pitch (TQFP); Supplier 1: Digi-Key; Supplier Part Number 1: ATMEGA1281-16AU-ND; Supplier 2: Farnell; Supplier Part Number 2: 1455092; Supplier 3: Mouser; Supplier Part Number 3: 556-ATMEGA1281-16AU; Code_JEDEC: MS-026-AEB; ComponentLink1Description: ATmega1281 Datasheet; ComponentLink1URL: http://www.atmel.com/dyn/resources/prod_documents/doc2549.pdf; ComponentLink2Description: Atmel.com Home; ComponentLink2URL: http://www.atmel.com
footprint 64A_N (Thin QFP, 64-Leads, Body 14x14mm, Pitch 0.8mm, IPC Medium Density)
footprint 64A_L (Thin QFP, 64-Leads, Body 14x14mm, Pitch 0.8mm, IPC High Density)
footprint 64A_M (Thin QFP, 64-Leads, Body 14x14mm, Pitch 0.8mm, IPC Low Density)
pins: 1 (OC0B) PG5 (io), 2 (RXD0/PCINT8/PDI) PE0 (io), 3 (TXD0/PDO) PE1 (io), 4 (XCK0/AIN0) PE2 (io), 5 (OC3A/AIN1) PE3 (io), 6 (OC3B/INT4) PE4 (io), 7 (OC3C/INT5) PE5 (io), 8 (T3/INT6) PE6 (io), 9 (ICP3/CLKO/INT7) PE7 (io), 10 (~{SS}/PCINT0) PB0 (io), 11 (SCK/PCINT1) PB1 (io), 12 (MOSI/PCINT2) PB2 (io), 13 (MISO/PCINT3) PB3 (io), 14 (OC2A/PCINT4) PB4 (io), 15 (OC1A/PCINT5) PB5 (io), 16 (OC1B/PCINT6) PB6 (io), 17 (OC0A/OC1C/PCINT7) PB7 (io), 18 (TOSC2) PG3 (io), 19 (TOSC1) PG4 (io), 20 ~{RESET} (in), 21 VCC (power), 22 GND (power), 23 XTAL2, 24 XTAL1, 25 (SCL/INT0) PD0 (io), 26 (SDA/INT1) PD1 (io), 27 (RXD1/INT2) PD2 (io), 28 (TXD1/INT3) PD3 (io), 29 (ICP1) PD4 (io), 30 (XCK1) PD5 (io), 31 (T1) PD6 (io), 32 (T0) PD7 (io), 33 PG0 (~{WR})  (io), 34 PG1 (~{RD})  (io), 35 PC0 (A8)  (io), 36 PC1 (A9)  (io), 37 PC2 (A10)  (io), 38 PC3 (A11)  (io), 39 PC4 (A12)  (io), 40 PC5 (A13)  (io), 41 PC6 (A14)  (io), 42 PC7 (A15)  (io), 43 PG2 (ALE)  (io), 44 PA7 (AD7)  (io), 45 PA6 (AD6)  (io), 46 PA5 (AD5)  (io), 47 PA4 (AD4)  (io), 48 PA3 (AD3)  (io), 49 PA2 (AD2) (io), 50 PA1 (AD1) (io), 51 PA0 (AD0) (io), 52 VCC (power), 53 GND (power), 54 PF7 (ADC7/TDI) (io), 55 PF6 (ADC6/TDO) (io), 56 PF5 (ADC5/TMS) (io), 57 PF4 (ADC4/TCK) (io), 58 PF3 (ADC3) (io), 59 PF2 (ADC2) (io), 60 PF1 (ADC1) (io), 61 PF0 (ADC0) (io), 62 AREF (in), 63 GND (power), 64 AVCC (power)

## ATmega1281-16MU
designator U?
16 MHz 8-bit AVR Microcontroller with 128KB Flash, 64-Pin MLF Pkg, 54 I/Os, 6 PWMs, 2 USARTs, 8 ADC Channels, Industrial Temp; Published: 20-Sep-2010; DatasheetVersion: revL, Aug-2007; PackageVersion: revD, May-2006; PackageReference: 64M2; Publisher: Altium Limited; PackageDescription: 64-Pin Micro Lead Frame Package (MLF), 9 x 9 x 1.0 mm Body, 0.5 mm Pitch, 7.65 mm Exposed Pad; Supplier 1: Digi-Key; Supplier Part Number 1: ATMEGA1281-16MU-ND; Supplier 2: Mouser; Supplier Part Number 2: 556-ATMEGA1281-16MU; Code_JEDEC: MO-220VMMD; ComponentLink1Description: ATmega1281 Datasheet; ComponentLink1URL: http://www.atmel.com/dyn/resources/prod_documents/doc2549.pdf; ComponentLink2Description: Atmel.com Home; ComponentLink2URL: http://www.atmel.com
footprint 64M2_N (QFN, 64-Leads, Body 9x9mm, Pitch 0.5mm, IPC Medium Density)
footprint 64M2_L (QFN, 64-Leads, Body 9x9mm, Pitch 0.5mm, IPC High Density)
footprint 64M2_M (QFN, 64-Leads, Body 9x9mm, Pitch 0.5mm, IPC Low Density)
pins: 1 (OC0B) PG5 (io), 2 (RXD0/PCINT8/PDI) PE0 (io), 3 (TXD0/PDO) PE1 (io), 4 (XCK0/AIN0) PE2 (io), 5 (OC3A/AIN1) PE3 (io), 6 (OC3B/INT4) PE4 (io), 7 (OC3C/INT5) PE5 (io), 8 (T3/INT6) PE6 (io), 9 (ICP3/CLKO/INT7) PE7 (io), 10 (~{SS}/PCINT0) PB0 (io), 11 (SCK/PCINT1) PB1 (io), 12 (MOSI/PCINT2) PB2 (io), 13 (MISO/PCINT3) PB3 (io), 14 (OC2A/PCINT4) PB4 (io), 15 (OC1A/PCINT5) PB5 (io), 16 (OC1B/PCINT6) PB6 (io), 17 (OC0A/OC1C/PCINT7) PB7 (io), 18 (TOSC2) PG3 (io), 19 (TOSC1) PG4 (io), 20 ~{RESET} (in), 21 VCC (power), 22 GND (power), 23 XTAL2, 24 XTAL1, 25 (SCL/INT0) PD0 (io), 26 (SDA/INT1) PD1 (io), 27 (RXD1/INT2) PD2 (io), 28 (TXD1/INT3) PD3 (io), 29 (ICP1) PD4 (io), 30 (XCK1) PD5 (io), 31 (T1) PD6 (io), 32 (T0) PD7 (io), 33 PG0 (~{WR})  (io), 34 PG1 (~{RD})  (io), 35 PC0 (A8)  (io), 36 PC1 (A9)  (io), 37 PC2 (A10)  (io), 38 PC3 (A11)  (io), 39 PC4 (A12)  (io), 40 PC5 (A13)  (io), 41 PC6 (A14)  (io), 42 PC7 (A15)  (io), 43 PG2 (ALE)  (io), 44 PA7 (AD7)  (io), 45 PA6 (AD6)  (io), 46 PA5 (AD5)  (io), 47 PA4 (AD4)  (io), 48 PA3 (AD3)  (io), 49 PA2 (AD2) (io), 50 PA1 (AD1) (io), 51 PA0 (AD0) (io), 52 VCC (power), 53 GND (power), 54 PF7 (ADC7/TDI) (io), 55 PF6 (ADC6/TDO) (io), 56 PF5 (ADC5/TMS) (io), 57 PF4 (ADC4/TCK) (io), 58 PF3 (ADC3) (io), 59 PF2 (ADC2) (io), 60 PF1 (ADC1) (io), 61 PF0 (ADC0) (io), 62 AREF (in), 63 GND (power), 64 AVCC (power), 65 Thermal Pad (power)

## ATmega1284P-AU
designator U?
20 MHz 8-bit AVR Microcontroller with 128KB Flash, 44-Pin TQFP Pkg, Industrial Temp; Published: 20-Sep-2010; DatasheetVersion: revD, Nov-2009; PackageVersion: rev.B, Oct-2001; PackageReference: 44A; Publisher: Altium Limited; PackageDescription: 44-Pin Plastic Thin Profile Quad Flat Pack, 10 x 10 x 1.0 mm Body, 0.8 mm Pitch (TQFP); Supplier 1: Digi-Key; Supplier Part Number 1: ATMEGA1284P-AU-ND; Supplier 2: Farnell; Supplier Part Number 2: 1715480; Supplier 3: Mouser; Supplier Part Number 3: 556-ATMEGA1284P-AU; ComponentLink1Description: ATmega1284P Datasheet; ComponentLink1URL: http://www.atmel.com/dyn/resources/prod_documents/doc8059.pdf; ComponentLink2Description: Atmel.com Home; ComponentLink2URL: http://www.atmel.com
footprint 44A_N (Thin QFP, 44-Leads, Body 10x10mm, Pitch 0.8mm, IPC Medium Density)
footprint 44A_L (Thin QFP, 44-Leads, Body 10x10mm, Pitch 0.8mm, IPC High Density)
footprint 44A_M (Thin QFP, 44-Leads, Body 10x10mm, Pitch 0.8mm, IPC Low Density)
pins: 1 (PCINT13/ICP3/MOSI) PB5 (in), 2 (PCINT14/OC3A/MISO) PB6 (in), 3 (PCINT15/OC3B/SCK) PB7 (in), 4 ~{RESET} (in), 5 VCC, 6 GND, 7 XTAL2, 8 XTAL1, 9 (PCINT24/RXD0/T3) PD0 (in), 10 (PCINT25/TXD0) PD1 (in), 11 (PCINT26/RXD1/INT0) PD2 (in), 12 (PCINT27/TXD1/INT1) PD3 (in), 13 (PCINT28/XCK1/OC1B) PD4 (in), 14 (PCINT29/OC1A) PD5 (in), 15 (PCINT30/OC2B/ICP) PD6 (in), 16 (OC2A/PCINT31) PD7 (in), 17 VCC, 18 GND, 19 PC0 (SCL/PCINT16) (in), 20 PC1 (SDA/PCINT17) (in), 21 PC2 (TCK/PCINT18) (in), 22 PC3 (TMS/PCINT19) (in), 23 PC4 (TDO/PCINT20) (in), 24 PC5 (TDI/PCINT21) (in), 25 PC6 (TOSC1/PCINT22) (in), 26 PC7 (TOSC2/PCINT23) (in), 27 AVCC, 28 GND, 29 AREF (in), 30 PA7 (ADC7/PCINT7) (in), 31 PA6 (ADC6/PCINT6) (in), 32 PA5 (ADC5/PCINT5) (in), 33 PA4 (ADC4/PCINT4) (in), 34 PA3 (ADC3/PCINT3) (in), 35 PA2 (ADC2/PCINT2) (in), 36 PA1 (ADC1/PCINT1) (in), 37 PA0 (ADC0/PCINT0) (in), 38 VCC, 39 GND, 40 (PCINT8/XCK0/T0) PB0 (in), 41 (PCINT9/CLKO/T1) PB1 (in), 42 (PCINT10/INT2/AIN0) PB2 (in), 43 (PCINT11/OC0A/AIN1) PB3 (in), 44 (PCINT12/OC0B/~{SS}) PB4 (in)

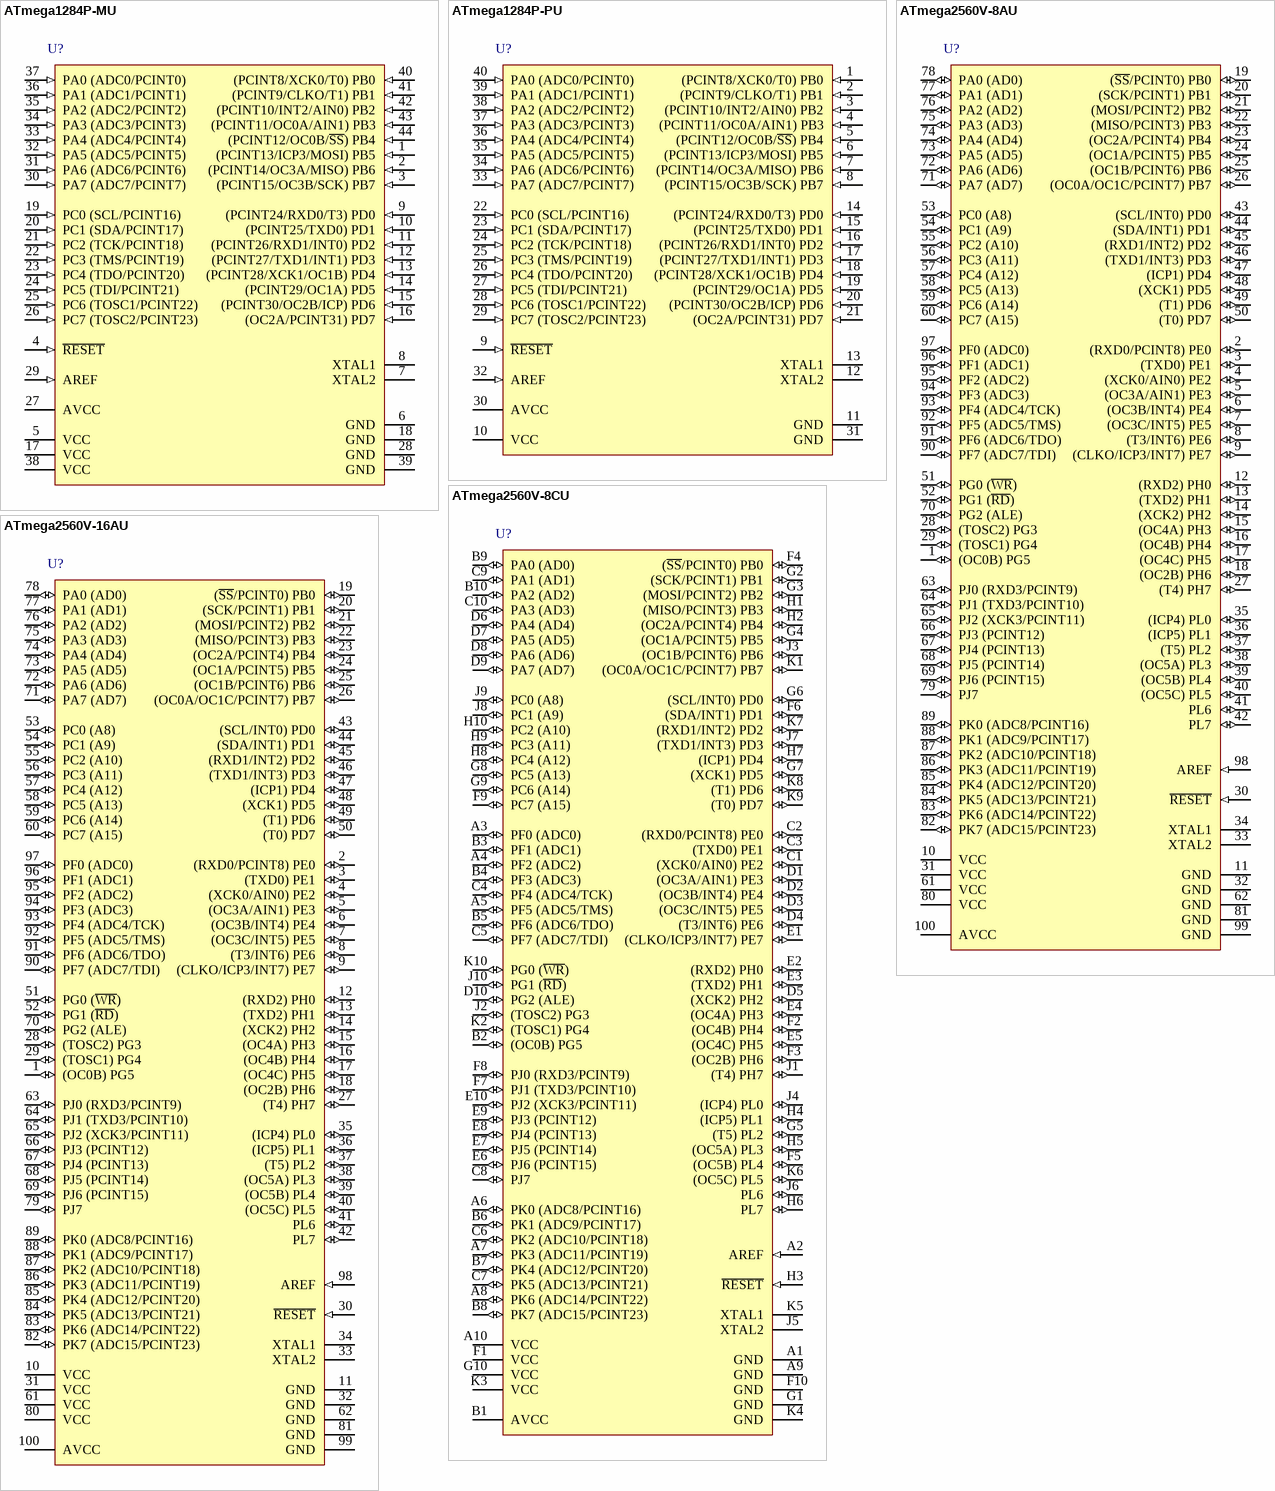
[diagram p5: symbols ATmega1284P-MU to ATmega2560V-16AU]

## ATmega1284P-MU
designator U?
20 MHz 8-bit AVR Microcontroller with 128KB Flash, 44-Pin VQFN Pkg, Industrial Temp; Published: 20-Sep-2010; DatasheetVersion: revD, Nov-2009; PackageVersion: revH, Sep-2008; PackageReference: 44M1; Publisher: Altium Limited; PackageDescription: 44-Pin Plastic Very Thin Quad Flat No-Lead Package, 7 x 7 x 1.0 mm Body, 0.5 mm Pitch (VQFN), 5.2 mm Exposed Pad; Supplier 1: Digi-Key; Supplier Part Number 1: ATMEGA1284P-MU-ND; Supplier 2: Mouser; Supplier Part Number 2: 556-ATMEGA1284P-MU; Code_JEDEC: MO-220-VKKD-1; ComponentLink1Description: ATmega1284P Datasheet; ComponentLink1URL: http://www.atmel.com/dyn/resources/prod_documents/doc8059.pdf; ComponentLink2Description: Atmel.com Home; ComponentLink2URL: http://www.atmel.com
footprint 44M1_N (QFN, 44-Leads, Body 7x7mm, Pitch 0.5mm, IPC Medium Density)
footprint 44M1_L (QFN, 44-Leads, Body 7x7mm, Pitch 0.5mm, IPC High Density)
footprint 44M1_M (QFN, 44-Leads, Body 7x7mm, Pitch 0.5mm, IPC Low Density)
pins: 1 (PCINT13/ICP3/MOSI) PB5 (in), 2 (PCINT14/OC3A/MISO) PB6 (in), 3 (PCINT15/OC3B/SCK) PB7 (in), 4 ~{RESET} (in), 5 VCC, 6 GND, 7 XTAL2, 8 XTAL1, 9 (PCINT24/RXD0/T3) PD0 (in), 10 (PCINT25/TXD0) PD1 (in), 11 (PCINT26/RXD1/INT0) PD2 (in), 12 (PCINT27/TXD1/INT1) PD3 (in), 13 (PCINT28/XCK1/OC1B) PD4 (in), 14 (PCINT29/OC1A) PD5 (in), 15 (PCINT30/OC2B/ICP) PD6 (in), 16 (OC2A/PCINT31) PD7 (in), 17 VCC, 18 GND, 19 PC0 (SCL/PCINT16) (in), 20 PC1 (SDA/PCINT17) (in), 21 PC2 (TCK/PCINT18) (in), 22 PC3 (TMS/PCINT19) (in), 23 PC4 (TDO/PCINT20) (in), 24 PC5 (TDI/PCINT21) (in), 25 PC6 (TOSC1/PCINT22) (in), 26 PC7 (TOSC2/PCINT23) (in), 27 AVCC, 28 GND, 29 AREF (in), 30 PA7 (ADC7/PCINT7) (in), 31 PA6 (ADC6/PCINT6) (in), 32 PA5 (ADC5/PCINT5) (in), 33 PA4 (ADC4/PCINT4) (in), 34 PA3 (ADC3/PCINT3) (in), 35 PA2 (ADC2/PCINT2) (in), 36 PA1 (ADC1/PCINT1) (in), 37 PA0 (ADC0/PCINT0) (in), 38 VCC, 39 GND, 40 (PCINT8/XCK0/T0) PB0 (in), 41 (PCINT9/CLKO/T1) PB1 (in), 42 (PCINT10/INT2/AIN0) PB2 (in), 43 (PCINT11/OC0A/AIN1) PB3 (in), 44 (PCINT12/OC0B/~{SS}) PB4 (in)

## ATmega1284P-PU
designator U?
20 MHz 8-bit AVR Microcontroller with 128KB Flash, 40-lead PDIP Pkg, Industrial Temp; Published: 20-Sep-2010; DatasheetVersion: revD, Nov-2009; PackageVersion: revB, Sep-2001; PackageReference: 40P6; Publisher: Altium Limited; PackageDescription: 40-lead (0.600"/15.24mm Wide) Plastic Dual Inline Package (PDIP); Supplier 1: Digi-Key; Supplier Part Number 1: ATMEGA1284P-PU-ND; Supplier 2: Farnell; Supplier Part Number 2: 1715481; Supplier 3: Mouser; Supplier Part Number 3: 556-ATMEGA1284P-PU; Code_JEDEC: MS-011-AC; ComponentLink1Description: ATmega1284P Datasheet; ComponentLink1URL: http://www.atmel.com/dyn/resources/prod_documents/doc8059.pdf; ComponentLink2Description: Atmel.com Home; ComponentLink2URL: http://www.atmel.com
footprint 40P6 (DIP, 40-Leads, Row Spacing 15.24mm, Pitch 2.54mm, Body 52.2x13.95mm)
pins: 1 (PCINT8/XCK0/T0) PB0 (in), 2 (PCINT9/CLKO/T1) PB1 (in), 3 (PCINT10/INT2/AIN0) PB2 (in), 4 (PCINT11/OC0A/AIN1) PB3 (in), 5 (PCINT12/OC0B/~{SS}) PB4 (in), 6 (PCINT13/ICP3/MOSI) PB5 (in), 7 (PCINT14/OC3A/MISO) PB6 (in), 8 (PCINT15/OC3B/SCK) PB7 (in), 9 ~{RESET} (in), 10 VCC, 11 GND, 12 XTAL2, 13 XTAL1, 14 (PCINT24/RXD0/T3) PD0 (in), 15 (PCINT25/TXD0) PD1 (in), 16 (PCINT26/RXD1/INT0) PD2 (in), 17 (PCINT27/TXD1/INT1) PD3 (in), 18 (PCINT28/XCK1/OC1B) PD4 (in), 19 (PCINT29/OC1A) PD5 (in), 20 (PCINT30/OC2B/ICP) PD6 (in), 21 (OC2A/PCINT31) PD7 (in), 22 PC0 (SCL/PCINT16) (in), 23 PC1 (SDA/PCINT17) (in), 24 PC2 (TCK/PCINT18) (in), 25 PC3 (TMS/PCINT19) (in), 26 PC4 (TDO/PCINT20) (in), 27 PC5 (TDI/PCINT21) (in), 28 PC6 (TOSC1/PCINT22) (in), 29 PC7 (TOSC2/PCINT23) (in), 30 AVCC, 31 GND, 32 AREF (in), 33 PA7 (ADC7/PCINT7) (in), 34 PA6 (ADC6/PCINT6) (in), 35 PA5 (ADC5/PCINT5) (in), 36 PA4 (ADC4/PCINT4) (in), 37 PA3 (ADC3/PCINT3) (in), 38 PA2 (ADC2/PCINT2) (in), 39 PA1 (ADC1/PCINT1) (in), 40 PA0 (ADC0/PCINT0) (in)

## ATmega2560V-8AU
designator U?
8 MHz 8-bit AVR Microcontroller with 256KB Flash, 100-Pin TQFP Pkg, 86 I/Os, 12 PWMs, 4 USARTs, 16 ADC Channels, Industrial Temp; Published: 20-Sep-2010; DatasheetVersion: revL, Aug-2007; PackageVersion: revC, Oct-2001; PackageReference: 100A; Publisher: Altium Limited; PackageDescription: 100-Pin Thin Profile Plastic Quad Flat Pack (TQFP), 14 x 14 x 1.0 mm Body, 0.5 mm Pitch; Supplier 1: Digi-Key; Supplier Part Number 1: ATMEGA2560V-8AU-ND; Supplier 2: Farnell; Supplier Part Number 2: 1288331; Supplier 3: Mouser; Supplier Part Number 3: 556-ATMEGA2560V8AU; Code_JEDEC: MS-026-AED; ComponentLink1Description: ATmega2560V Datasheet; ComponentLink1URL: http://www.atmel.com/dyn/resources/prod_documents/doc2549.pdf; ComponentLink2Description: Atmel.com Home; ComponentLink2URL: http://www.atmel.com
footprint 100A_N (Thin QFP, 100-Leads, Body 14x14mm, Pitch 0.5mm, IPC Medium Density)
footprint 100A_L (Thin QFP, 100-Leads, Body 14x14mm, Pitch 0.5mm, IPC High Density)
footprint 100A_M (Thin QFP, 100-Leads, Body 14x14mm, Pitch 0.5mm, IPC Low Density)
pins: 1 (OC0B) PG5 (io), 2 (RXD0/PCINT8) PE0 (io), 3 (TXD0) PE1 (io), 4 (XCK0/AIN0) PE2 (io), 5 (OC3A/AIN1) PE3 (io), 6 (OC3B/INT4) PE4 (io), 7 (OC3C/INT5) PE5 (io), 8 (T3/INT6) PE6 (io), 9 (CLKO/ICP3/INT7) PE7 (io), 10 VCC (power), 11 GND (power), 12 (RXD2) PH0 (io), 13 (TXD2) PH1 (io), 14 (XCK2) PH2 (io), 15 (OC4A) PH3 (io), 16 (OC4B) PH4 (io), 17 (OC4C) PH5 (io), 18 (OC2B) PH6 (io), 19 (~{SS}/PCINT0) PB0 (io), 20 (SCK/PCINT1) PB1 (io), 21 (MOSI/PCINT2) PB2 (io), 22 (MISO/PCINT3) PB3 (io), 23 (OC2A/PCINT4) PB4 (io), 24 (OC1A/PCINT5) PB5 (io), 25 (OC1B/PCINT6) PB6 (io), 26 (OC0A/OC1C/PCINT7) PB7 (io), 27 (T4) PH7 (io), 28 (TOSC2) PG3 (io), 29 (TOSC1) PG4 (io), 30 ~{RESET} (in), 31 VCC (power), 32 GND (power), 33 XTAL2, 34 XTAL1, 35 (ICP4) PL0 (io), 36 (ICP5) PL1 (io), 37 (T5) PL2 (io), 38 (OC5A) PL3 (io), 39 (OC5B) PL4 (io), 40 (OC5C) PL5 (io), 41 PL6 (io), 42 PL7 (io), 43 (SCL/INT0) PD0 (io), 44 (SDA/INT1) PD1 (io), 45 (RXD1/INT2) PD2 (io), 46 (TXD1/INT3) PD3 (io), 47 (ICP1) PD4 (io), 48 (XCK1) PD5 (io), 49 (T1) PD6 (io), 50 (T0) PD7 (io), 51 PG0 (~{WR})  (io), 52 PG1 (~{RD})  (io), 53 PC0 (A8)  (io), 54 PC1 (A9)  (io), 55 PC2 (A10)  (io), 56 PC3 (A11)  (io), 57 PC4 (A12)  (io), 58 PC5 (A13)  (io), 59 PC6 (A14)  (io), 60 PC7 (A15)  (io), 61 VCC (power), 62 GND (power), 63 PJ0 (RXD3/PCINT9)  (io), 64 PJ1 (TXD3/PCINT10)  (io), 65 PJ2 (XCK3/PCINT11)  (io), 66 PJ3 (PCINT12)  (io), 67 PJ4 (PCINT13)  (io), 68 PJ5 (PCINT14)  (io), 69 PJ6 (PCINT15)  (io), 70 PG2 (ALE)  (io), 71 PA7 (AD7)  (io), 72 PA6 (AD6)  (io), 73 PA5 (AD5)  (io), 74 PA4 (AD4)  (io), 75 PA3 (AD3)  (io), 76 PA2 (AD2) (io), 77 PA1 (AD1) (io), 78 PA0 (AD0) (io), 79 PJ7 (io), 80 VCC (power), 81 GND (power), 82 PK7 (ADC15/PCINT23) (io), 83 PK6 (ADC14/PCINT22) (io), 84 PK5 (ADC13/PCINT21) (io), 85 PK4 (ADC12/PCINT20) (io), 86 PK3 (ADC11/PCINT19) (io), 87 PK2 (ADC10/PCINT18) (io), 88 PK1 (ADC9/PCINT17) (io), 89 PK0 (ADC8/PCINT16) (io), 90 PF7 (ADC7/TDI) (io), 91 PF6 (ADC6/TDO) (io), 92 PF5 (ADC5/TMS) (io), 93 PF4 (ADC4/TCK) (io), 94 PF3 (ADC3) (io), 95 PF2 (ADC2) (io), 96 PF1 (ADC1) (io), 97 PF0 (ADC0) (io), 98 AREF (in), 99 GND (power), 100 AVCC (power)

## ATmega2560V-8CU
designator U?
8 MHz 8-bit AVR Microcontroller with 256KB Flash, 100-Ball CBGA Pkg, 86 I/Os, 12 PWMs, 4 USARTs, 16 ADC Channels, Industrial Temp; Published: 20-Sep-2010; DatasheetVersion: revL, Aug-2007; PackageVersion: revA, May-2006; PackageReference: 100C1; Publisher: Altium Limited; PackageDescription: 100-Ball Chip Array BGA Package (CBGA), 9 x 9 x1.2 mm Body, 0.80 mm Pitch; Supplier 1: Digi-Key; Supplier Part Number 1: ATMEGA2560V-8CU-ND; Supplier 2: Mouser; Supplier Part Number 2: 556-ATMEGA2560V8CU; ComponentLink1Description: ATmega2560V Datasheet; ComponentLink1URL: http://www.atmel.com/dyn/resources/prod_documents/doc2549.pdf; ComponentLink2Description: Atmel.com Home; ComponentLink2URL: http://www.atmel.com
footprint 100C1 (BGA, 100-Leads, Body 9x9mm, Pitch 0.8mm)
pins: A1 GND (power), A2 AREF (in), A3 PF0 (ADC0) (io), A4 PF2 (ADC2) (io), A5 PF5 (ADC5/TMS) (io), A6 PK0 (ADC8/PCINT16) (io), A7 PK3 (ADC11/PCINT19) (io), A8 PK6 (ADC14/PCINT22) (io), A9 GND (power), A10 VCC (power), B1 AVCC (power), B2 (OC0B) PG5 (io), B3 PF1 (ADC1) (io), B4 PF3 (ADC3) (io), B5 PF6 (ADC6/TDO) (io), B6 PK1 (ADC9/PCINT17) (io), B7 PK4 (ADC12/PCINT20) (io), B8 PK7 (ADC15/PCINT23) (io), B9 PA0 (AD0) (io), B10 PA2 (AD2) (io), C1 (XCK0/AIN0) PE2 (io), C2 (RXD0/PCINT8) PE0 (io), C3 (TXD0) PE1 (io), C4 PF4 (ADC4/TCK) (io), C5 PF7 (ADC7/TDI) (io), C6 PK2 (ADC10/PCINT18) (io), C7 PK5 (ADC13/PCINT21) (io), C8 PJ7 (io), C9 PA1 (AD1) (io), C10 PA3 (AD3)  (io), D1 (OC3A/AIN1) PE3 (io), D2 (OC3B/INT4) PE4 (io), D3 (OC3C/INT5) PE5 (io), D4 (T3/INT6) PE6 (io), D5 (XCK2) PH2 (io), D6 PA4 (AD4)  (io), D7 PA5 (AD5)  (io), D8 PA6 (AD6)  (io), D9 PA7 (AD7)  (io), D10 PG2 (ALE)  (io), E1 (CLKO/ICP3/INT7) PE7 (io), E2 (RXD2) PH0 (io), E3 (TXD2) PH1 (io), E4 (OC4A) PH3 (io), E5 (OC4C) PH5 (io), E6 PJ6 (PCINT15)  (io), E7 PJ5 (PCINT14)  (io), E8 PJ4 (PCINT13)  (io), E9 PJ3 (PCINT12)  (io), E10 PJ2 (XCK3/PCINT11)  (io), F1 VCC (power), F2 (OC4B) PH4 (io), F3 (OC2B) PH6 (io), F4 (~{SS}/PCINT0) PB0 (io), F5 (OC5B) PL4 (io), F6 (SDA/INT1) PD1 (io), F7 PJ1 (TXD3/PCINT10)  (io), F8 PJ0 (RXD3/PCINT9)  (io), F9 PC7 (A15)  (io), F10 GND (power), G1 GND (power), G2 (SCK/PCINT1) PB1 (io), G3 (MOSI/PCINT2) PB2 (io), G4 (OC1A/PCINT5) PB5 (io), G5 (T5) PL2 (io), G6 (SCL/INT0) PD0 (io), G7 (XCK1) PD5 (io), G8 PC5 (A13)  (io), G9 PC6 (A14)  (io), G10 VCC (power), H1 (MISO/PCINT3) PB3 (io), H2 (OC2A/PCINT4) PB4 (io), H3 ~{RESET} (in), H4 (ICP5) PL1 (io), H5 (OC5A) PL3 (io), H6 PL7 (io), H7 (ICP1) PD4 (io), H8 PC4 (A12)  (io), H9 PC3 (A11)  (io), H10 PC2 (A10)  (io), J1 (T4) PH7 (io), J2 (TOSC2) PG3 (io), J3 (OC1B/PCINT6) PB6 (io), J4 (ICP4) PL0 (io), J5 XTAL2, J6 PL6 (io), J7 (TXD1/INT3) PD3 (io), J8 PC1 (A9)  (io), J9 PC0 (A8)  (io), J10 PG1 (~{RD})  (io), K1 (OC0A/OC1C/PCINT7) PB7 (io), K2 (TOSC1) PG4 (io), K3 VCC (power), K4 GND (power), K5 XTAL1, K6 (OC5C) PL5 (io), K7 (RXD1/INT2) PD2 (io), K8 (T1) PD6 (io), K9 (T0) PD7 (io), K10 PG0 (~{WR})  (io)

## ATmega2560V-16AU
designator U?
16 MHz 8-bit AVR Microcontroller with 256KB Flash, 100-Pin TQFP Pkg, 86 I/Os, 12 PWMs, 4 USARTs, 16 ADC Channels, Industrial Temp; Published: 20-Sep-2010; DatasheetVersion: revL, Aug-2007; PackageVersion: revC, Oct-2001; PackageReference: 100A; Publisher: Altium Limited; PackageDescription: 100-Pin Thin Profile Plastic Quad Flat Pack (TQFP), 14 x 14 x 1.0 mm Body, 0.5 mm Pitch; Code_JEDEC: MS-026-AED; ComponentLink1Description: ATmega2560V Datasheet; ComponentLink1URL: http://www.atmel.com/dyn/resources/prod_documents/doc2549.pdf; ComponentLink2Description: Atmel.com Home; ComponentLink2URL: http://www.atmel.com
footprint 100A_N (Thin QFP, 100-Leads, Body 14x14mm, Pitch 0.5mm, IPC Medium Density)
footprint 100A_L (Thin QFP, 100-Leads, Body 14x14mm, Pitch 0.5mm, IPC High Density)
footprint 100A_M (Thin QFP, 100-Leads, Body 14x14mm, Pitch 0.5mm, IPC Low Density)
pins: 1 (OC0B) PG5 (io), 2 (RXD0/PCINT8) PE0 (io), 3 (TXD0) PE1 (io), 4 (XCK0/AIN0) PE2 (io), 5 (OC3A/AIN1) PE3 (io), 6 (OC3B/INT4) PE4 (io), 7 (OC3C/INT5) PE5 (io), 8 (T3/INT6) PE6 (io), 9 (CLKO/ICP3/INT7) PE7 (io), 10 VCC (power), 11 GND (power), 12 (RXD2) PH0 (io), 13 (TXD2) PH1 (io), 14 (XCK2) PH2 (io), 15 (OC4A) PH3 (io), 16 (OC4B) PH4 (io), 17 (OC4C) PH5 (io), 18 (OC2B) PH6 (io), 19 (~{SS}/PCINT0) PB0 (io), 20 (SCK/PCINT1) PB1 (io), 21 (MOSI/PCINT2) PB2 (io), 22 (MISO/PCINT3) PB3 (io), 23 (OC2A/PCINT4) PB4 (io), 24 (OC1A/PCINT5) PB5 (io), 25 (OC1B/PCINT6) PB6 (io), 26 (OC0A/OC1C/PCINT7) PB7 (io), 27 (T4) PH7 (io), 28 (TOSC2) PG3 (io), 29 (TOSC1) PG4 (io), 30 ~{RESET} (in), 31 VCC (power), 32 GND (power), 33 XTAL2, 34 XTAL1, 35 (ICP4) PL0 (io), 36 (ICP5) PL1 (io), 37 (T5) PL2 (io), 38 (OC5A) PL3 (io), 39 (OC5B) PL4 (io), 40 (OC5C) PL5 (io), 41 PL6 (io), 42 PL7 (io), 43 (SCL/INT0) PD0 (io), 44 (SDA/INT1) PD1 (io), 45 (RXD1/INT2) PD2 (io), 46 (TXD1/INT3) PD3 (io), 47 (ICP1) PD4 (io), 48 (XCK1) PD5 (io), 49 (T1) PD6 (io), 50 (T0) PD7 (io), 51 PG0 (~{WR})  (io), 52 PG1 (~{RD})  (io), 53 PC0 (A8)  (io), 54 PC1 (A9)  (io), 55 PC2 (A10)  (io), 56 PC3 (A11)  (io), 57 PC4 (A12)  (io), 58 PC5 (A13)  (io), 59 PC6 (A14)  (io), 60 PC7 (A15)  (io), 61 VCC (power), 62 GND (power), 63 PJ0 (RXD3/PCINT9)  (io), 64 PJ1 (TXD3/PCINT10)  (io), 65 PJ2 (XCK3/PCINT11)  (io), 66 PJ3 (PCINT12)  (io), 67 PJ4 (PCINT13)  (io), 68 PJ5 (PCINT14)  (io), 69 PJ6 (PCINT15)  (io), 70 PG2 (ALE)  (io), 71 PA7 (AD7)  (io), 72 PA6 (AD6)  (io), 73 PA5 (AD5)  (io), 74 PA4 (AD4)  (io), 75 PA3 (AD3)  (io), 76 PA2 (AD2) (io), 77 PA1 (AD1) (io), 78 PA0 (AD0) (io), 79 PJ7 (io), 80 VCC (power), 81 GND (power), 82 PK7 (ADC15/PCINT23) (io), 83 PK6 (ADC14/PCINT22) (io), 84 PK5 (ADC13/PCINT21) (io), 85 PK4 (ADC12/PCINT20) (io), 86 PK3 (ADC11/PCINT19) (io), 87 PK2 (ADC10/PCINT18) (io), 88 PK1 (ADC9/PCINT17) (io), 89 PK0 (ADC8/PCINT16) (io), 90 PF7 (ADC7/TDI) (io), 91 PF6 (ADC6/TDO) (io), 92 PF5 (ADC5/TMS) (io), 93 PF4 (ADC4/TCK) (io), 94 PF3 (ADC3) (io), 95 PF2 (ADC2) (io), 96 PF1 (ADC1) (io), 97 PF0 (ADC0) (io), 98 AREF (in), 99 GND (power), 100 AVCC (power)

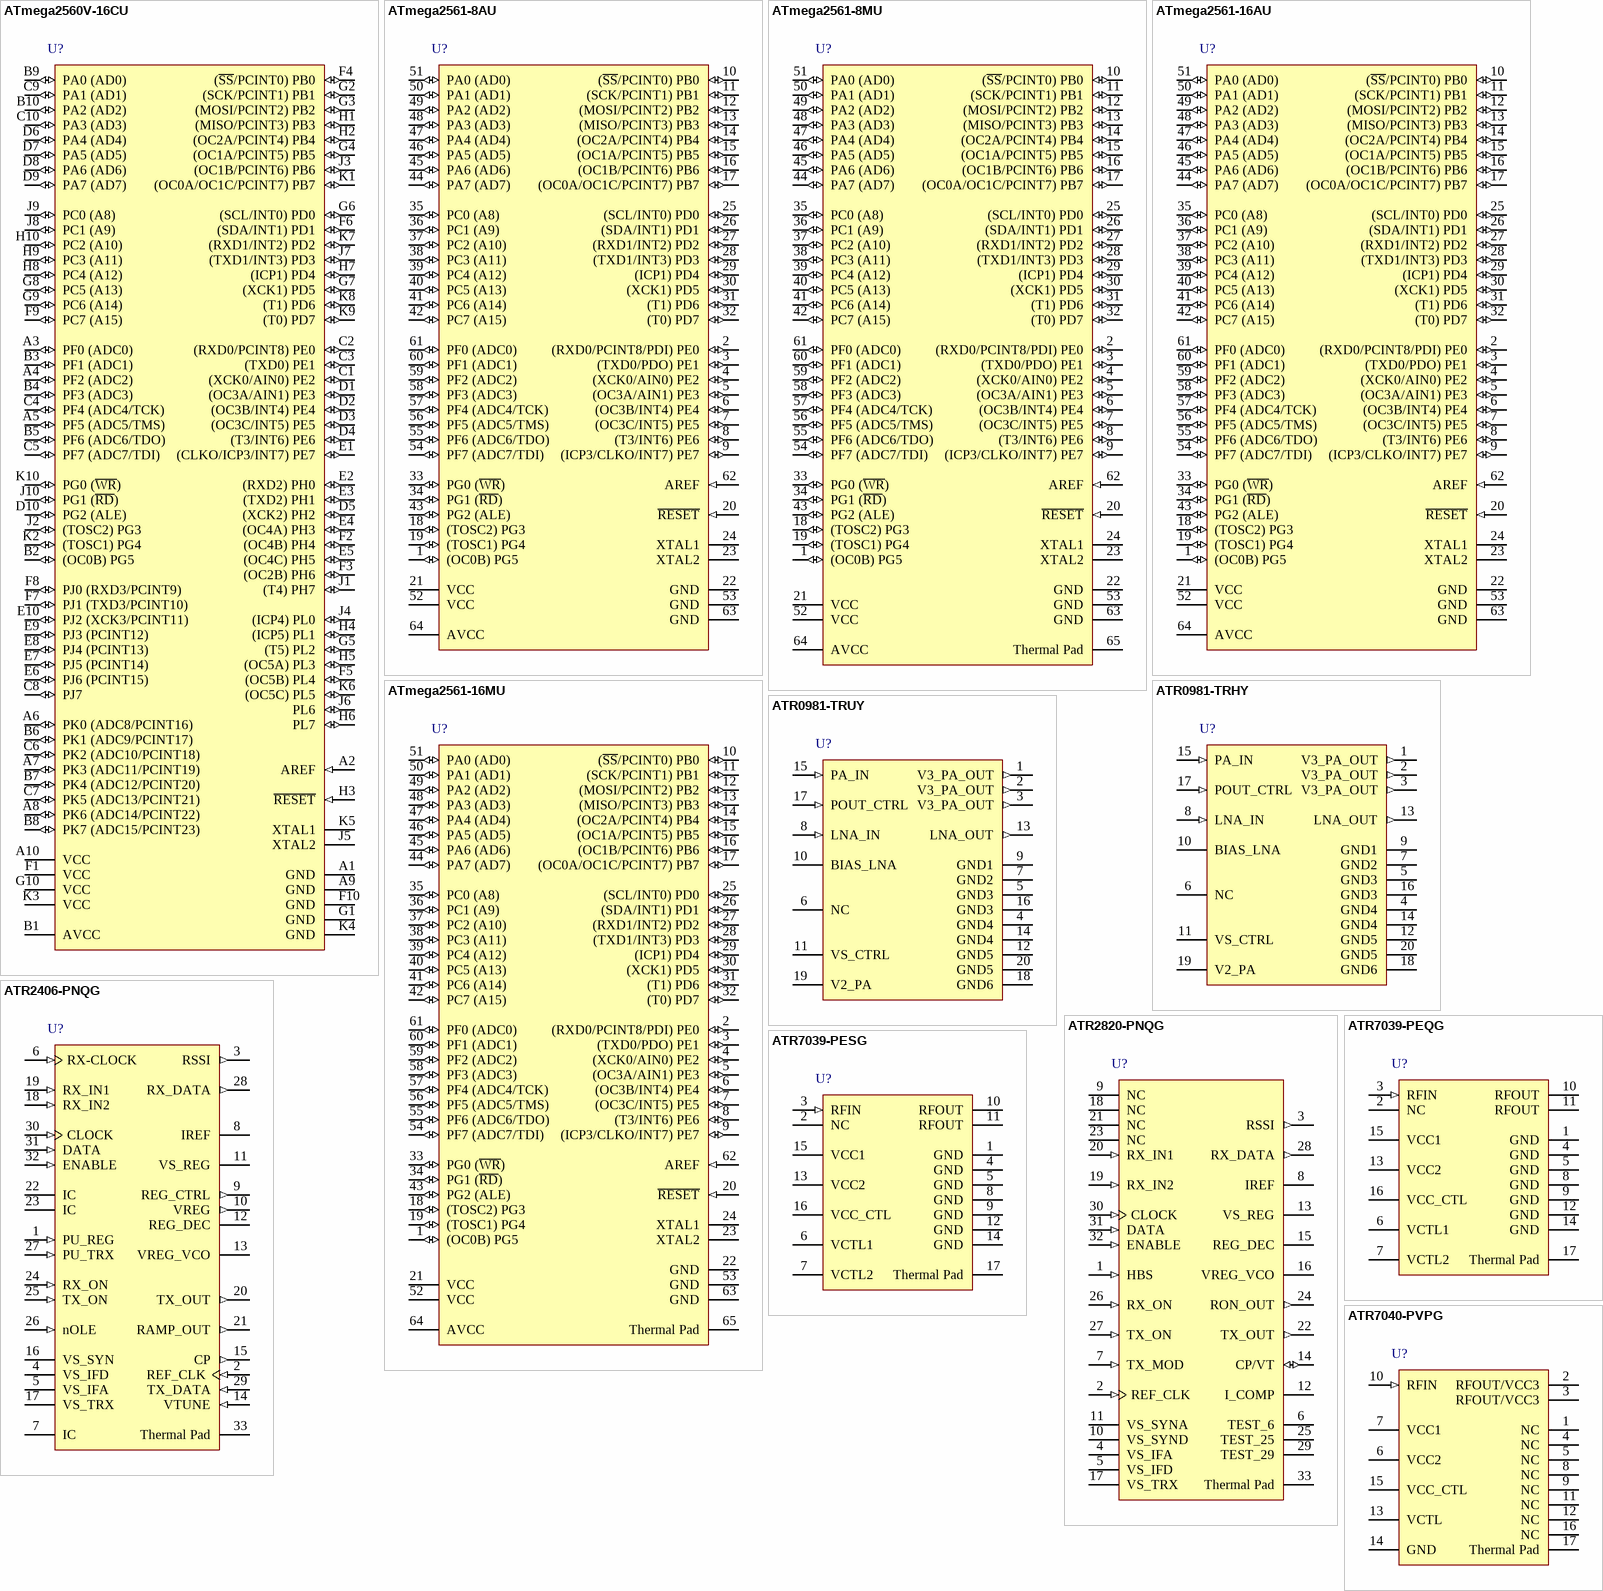
[diagram p6: symbols ATmega2560V-16CU to ATR7040-PVPG]

## ATmega2560V-16CU
designator U?
16 MHz 8-bit AVR Microcontroller with 256KB Flash, 100-Ball CBGA Pkg, 86 I/Os, 12 PWMs, 4 USARTs, 16 ADC Channels, Industrial Temp; Published: 20-Sep-2010; DatasheetVersion: revL, Aug-2007; PackageVersion: revA, May-2006; PackageReference: 100C1; Publisher: Altium Limited; PackageDescription: 100-Ball Chip Array BGA Package (CBGA), 9 x 9 x1.2 mm Body, 0.80 mm Pitch; ComponentLink1Description: ATmega2560V Datasheet; ComponentLink1URL: http://www.atmel.com/dyn/resources/prod_documents/doc2549.pdf; ComponentLink2Description: Atmel.com Home; ComponentLink2URL: http://www.atmel.com
footprint 100C1 (BGA, 100-Leads, Body 9x9mm, Pitch 0.8mm)
pins: A1 GND (power), A2 AREF (in), A3 PF0 (ADC0) (io), A4 PF2 (ADC2) (io), A5 PF5 (ADC5/TMS) (io), A6 PK0 (ADC8/PCINT16) (io), A7 PK3 (ADC11/PCINT19) (io), A8 PK6 (ADC14/PCINT22) (io), A9 GND (power), A10 VCC (power), B1 AVCC (power), B2 (OC0B) PG5 (io), B3 PF1 (ADC1) (io), B4 PF3 (ADC3) (io), B5 PF6 (ADC6/TDO) (io), B6 PK1 (ADC9/PCINT17) (io), B7 PK4 (ADC12/PCINT20) (io), B8 PK7 (ADC15/PCINT23) (io), B9 PA0 (AD0) (io), B10 PA2 (AD2) (io), C1 (XCK0/AIN0) PE2 (io), C2 (RXD0/PCINT8) PE0 (io), C3 (TXD0) PE1 (io), C4 PF4 (ADC4/TCK) (io), C5 PF7 (ADC7/TDI) (io), C6 PK2 (ADC10/PCINT18) (io), C7 PK5 (ADC13/PCINT21) (io), C8 PJ7 (io), C9 PA1 (AD1) (io), C10 PA3 (AD3)  (io), D1 (OC3A/AIN1) PE3 (io), D2 (OC3B/INT4) PE4 (io), D3 (OC3C/INT5) PE5 (io), D4 (T3/INT6) PE6 (io), D5 (XCK2) PH2 (io), D6 PA4 (AD4)  (io), D7 PA5 (AD5)  (io), D8 PA6 (AD6)  (io), D9 PA7 (AD7)  (io), D10 PG2 (ALE)  (io), E1 (CLKO/ICP3/INT7) PE7 (io), E2 (RXD2) PH0 (io), E3 (TXD2) PH1 (io), E4 (OC4A) PH3 (io), E5 (OC4C) PH5 (io), E6 PJ6 (PCINT15)  (io), E7 PJ5 (PCINT14)  (io), E8 PJ4 (PCINT13)  (io), E9 PJ3 (PCINT12)  (io), E10 PJ2 (XCK3/PCINT11)  (io), F1 VCC (power), F2 (OC4B) PH4 (io), F3 (OC2B) PH6 (io), F4 (~{SS}/PCINT0) PB0 (io), F5 (OC5B) PL4 (io), F6 (SDA/INT1) PD1 (io), F7 PJ1 (TXD3/PCINT10)  (io), F8 PJ0 (RXD3/PCINT9)  (io), F9 PC7 (A15)  (io), F10 GND (power), G1 GND (power), G2 (SCK/PCINT1) PB1 (io), G3 (MOSI/PCINT2) PB2 (io), G4 (OC1A/PCINT5) PB5 (io), G5 (T5) PL2 (io), G6 (SCL/INT0) PD0 (io), G7 (XCK1) PD5 (io), G8 PC5 (A13)  (io), G9 PC6 (A14)  (io), G10 VCC (power), H1 (MISO/PCINT3) PB3 (io), H2 (OC2A/PCINT4) PB4 (io), H3 ~{RESET} (in), H4 (ICP5) PL1 (io), H5 (OC5A) PL3 (io), H6 PL7 (io), H7 (ICP1) PD4 (io), H8 PC4 (A12)  (io), H9 PC3 (A11)  (io), H10 PC2 (A10)  (io), J1 (T4) PH7 (io), J2 (TOSC2) PG3 (io), J3 (OC1B/PCINT6) PB6 (io), J4 (ICP4) PL0 (io), J5 XTAL2, J6 PL6 (io), J7 (TXD1/INT3) PD3 (io), J8 PC1 (A9)  (io), J9 PC0 (A8)  (io), J10 PG1 (~{RD})  (io), K1 (OC0A/OC1C/PCINT7) PB7 (io), K2 (TOSC1) PG4 (io), K3 VCC (power), K4 GND (power), K5 XTAL1, K6 (OC5C) PL5 (io), K7 (RXD1/INT2) PD2 (io), K8 (T1) PD6 (io), K9 (T0) PD7 (io), K10 PG0 (~{WR})  (io)

## ATmega2561-8AU
designator U?
8 MHz 8-bit AVR Microcontroller with 256KB Flash, 64-Pin TQFP Pkg, 54 I/Os, 6 PWMs, 2 USARTs, 8 ADC Channels, Industrial Temp; Published: 20-Sep-2010; DatasheetVersion: revL, Aug-2007; PackageVersion: revB, Oct-2001; PackageReference: 64A; Publisher: Altium Limited; PackageDescription: 64-Pin Plastic Thin Profile Quad Flat Pack, 14 x 14 x 1.0 mm Body, 0.8 mm Pitch (TQFP); Code_JEDEC: MS-026-AEB; ComponentLink1Description: ATmega2561 Datasheet; ComponentLink1URL: http://www.atmel.com/dyn/resources/prod_documents/doc2549.pdf; ComponentLink2Description: Atmel.com Home; ComponentLink2URL: http://www.atmel.com
footprint 64A_N (Thin QFP, 64-Leads, Body 14x14mm, Pitch 0.8mm, IPC Medium Density)
footprint 64A_L (Thin QFP, 64-Leads, Body 14x14mm, Pitch 0.8mm, IPC High Density)
footprint 64A_M (Thin QFP, 64-Leads, Body 14x14mm, Pitch 0.8mm, IPC Low Density)
pins: 1 (OC0B) PG5 (io), 2 (RXD0/PCINT8/PDI) PE0 (io), 3 (TXD0/PDO) PE1 (io), 4 (XCK0/AIN0) PE2 (io), 5 (OC3A/AIN1) PE3 (io), 6 (OC3B/INT4) PE4 (io), 7 (OC3C/INT5) PE5 (io), 8 (T3/INT6) PE6 (io), 9 (ICP3/CLKO/INT7) PE7 (io), 10 (~{SS}/PCINT0) PB0 (io), 11 (SCK/PCINT1) PB1 (io), 12 (MOSI/PCINT2) PB2 (io), 13 (MISO/PCINT3) PB3 (io), 14 (OC2A/PCINT4) PB4 (io), 15 (OC1A/PCINT5) PB5 (io), 16 (OC1B/PCINT6) PB6 (io), 17 (OC0A/OC1C/PCINT7) PB7 (io), 18 (TOSC2) PG3 (io), 19 (TOSC1) PG4 (io), 20 ~{RESET} (in), 21 VCC (power), 22 GND (power), 23 XTAL2, 24 XTAL1, 25 (SCL/INT0) PD0 (io), 26 (SDA/INT1) PD1 (io), 27 (RXD1/INT2) PD2 (io), 28 (TXD1/INT3) PD3 (io), 29 (ICP1) PD4 (io), 30 (XCK1) PD5 (io), 31 (T1) PD6 (io), 32 (T0) PD7 (io), 33 PG0 (~{WR})  (io), 34 PG1 (~{RD})  (io), 35 PC0 (A8)  (io), 36 PC1 (A9)  (io), 37 PC2 (A10)  (io), 38 PC3 (A11)  (io), 39 PC4 (A12)  (io), 40 PC5 (A13)  (io), 41 PC6 (A14)  (io), 42 PC7 (A15)  (io), 43 PG2 (ALE)  (io), 44 PA7 (AD7)  (io), 45 PA6 (AD6)  (io), 46 PA5 (AD5)  (io), 47 PA4 (AD4)  (io), 48 PA3 (AD3)  (io), 49 PA2 (AD2) (io), 50 PA1 (AD1) (io), 51 PA0 (AD0) (io), 52 VCC (power), 53 GND (power), 54 PF7 (ADC7/TDI) (io), 55 PF6 (ADC6/TDO) (io), 56 PF5 (ADC5/TMS) (io), 57 PF4 (ADC4/TCK) (io), 58 PF3 (ADC3) (io), 59 PF2 (ADC2) (io), 60 PF1 (ADC1) (io), 61 PF0 (ADC0) (io), 62 AREF (in), 63 GND (power), 64 AVCC (power)